# Altium schematic symbol library CH sch.SchLib: 197 symbols (part 1 of 4)
Pins are listed as number, name and electrical type; pins without a type are passive.

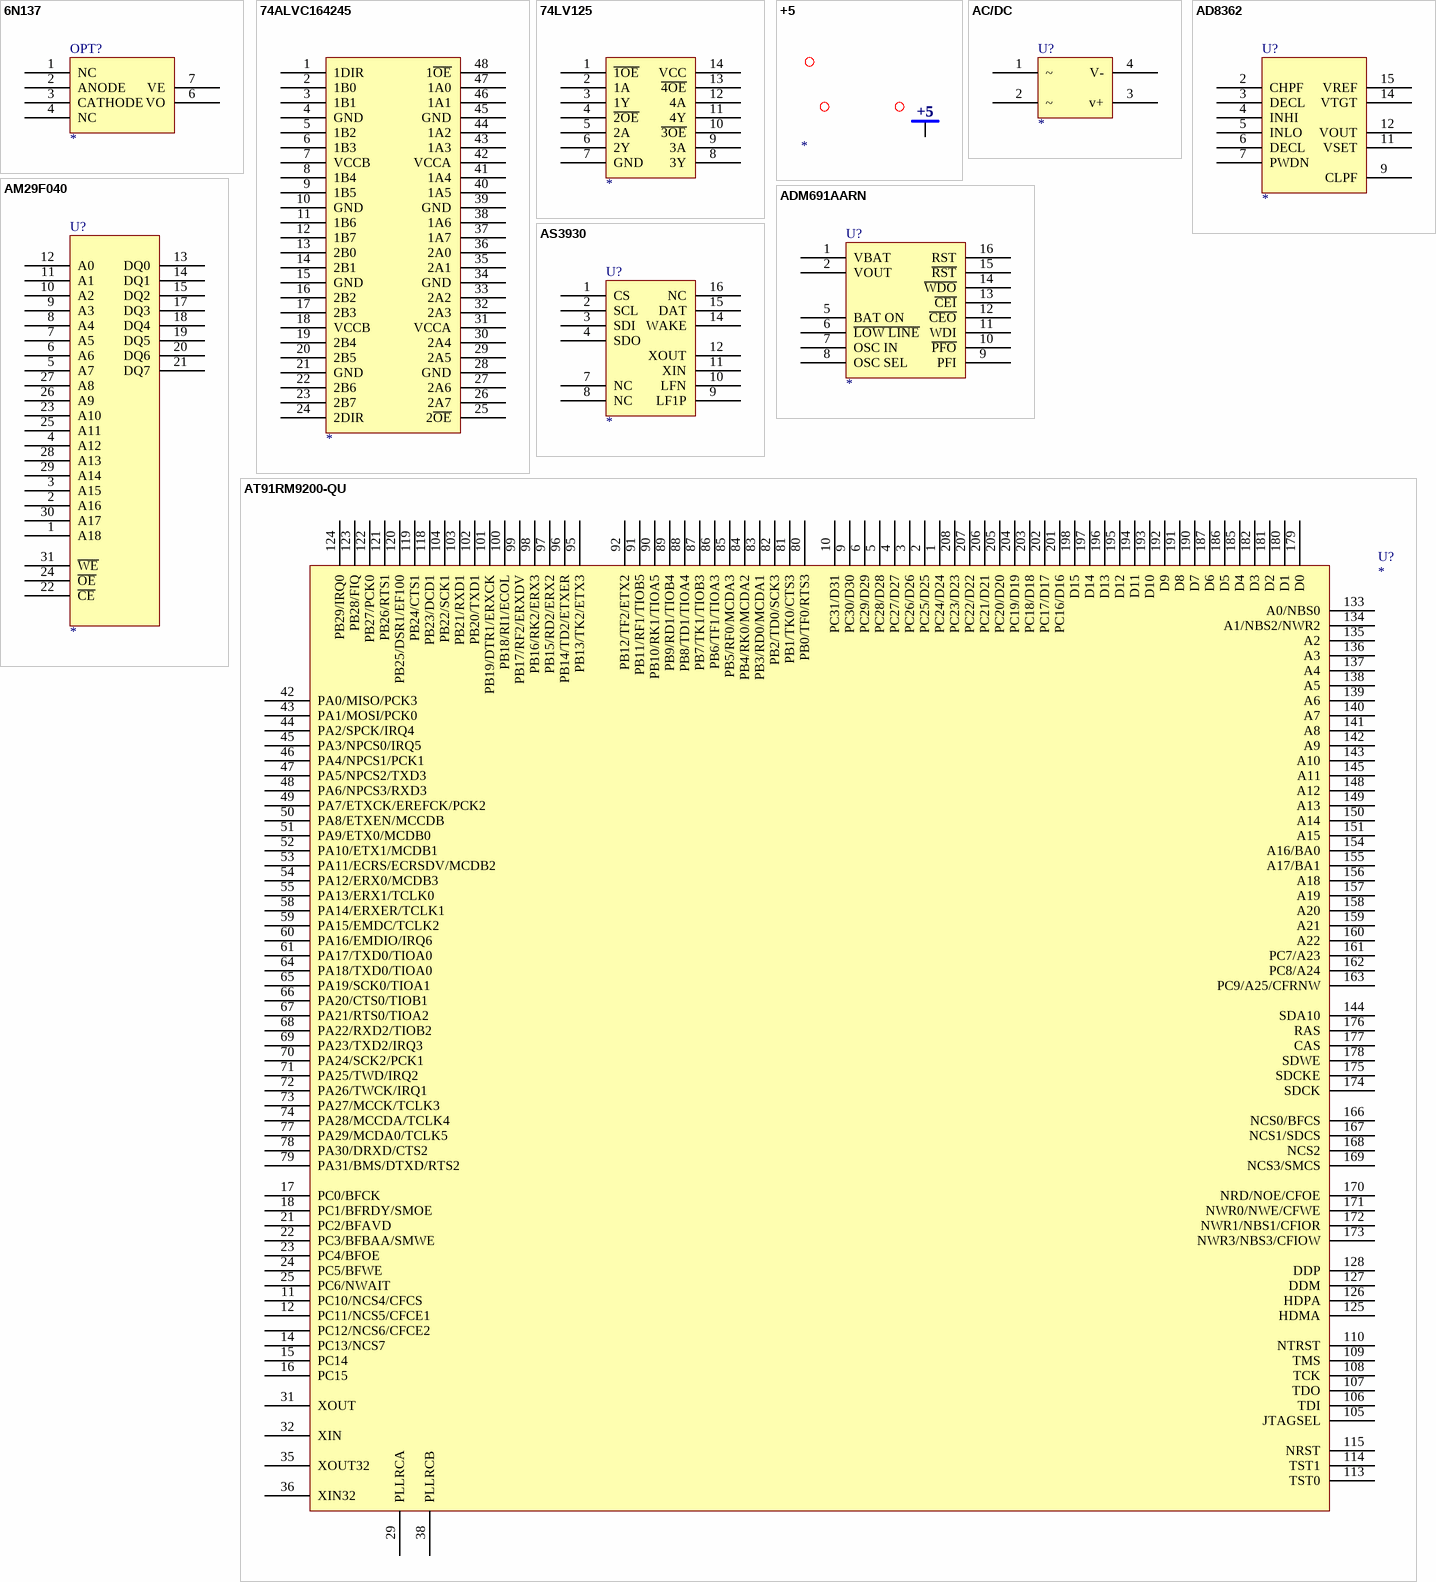
[diagram p0: symbols 6N137 to AT91RM9200-QU]

## 6N137
designator OPT?
footprint DIP8
footprint DIP8-SMT
pins: 1 NC, 2 ANODE, 3 CATHODE, 4 NC, 5 GND (power) hidden to GND, 6 VO, 7 VE, 8 VCC (power) hidden to VCC
2 alternate drawings of the same symbol

## 74ALVC164245
designator ?
pins: 1 1DIR, 2 1B0, 3 1B1, 4 GND, 5 1B2, 6 1B3, 7 VCCB, 8 1B4, 9 1B5, 10 GND, 11 1B6, 12 1B7, 13 2B0, 14 2B1, 15 GND, 16 2B2, 17 2B3, 18 VCCB, 19 2B4, 20 2B5, 21 GND, 22 2B6, 23 2B7, 24 2DIR, 25 2~{OE}, 26 2A7, 27 2A6, 28 GND, 29 2A5, 30 2A4, 31 VCCA, 32 2A3, 33 2A2, 34 GND, 35 2A1, 36 2A0, 37 1A7, 38 1A6, 39 GND, 40 1A5, 41 1A4, 42 VCCA, 43 1A3, 44 1A2, 45 GND, 46 1A1, 47 1A0, 48 1~{OE}
2 alternate drawings of the same symbol

## 74LV125
designator ?
pins: 1 ~{1OE}, 2 1A, 3 1Y, 4 ~{2OE}, 5 2A, 6 2Y, 7 GND, 8 3Y, 9 3A, 10 ~{3OE}, 11 4Y, 12 4A, 13 ~{4OE}, 14 VCC
2 alternate drawings of the same symbol

## +5
designator ?
pins: 1 (power)
2 alternate drawings of the same symbol

## AC/DC
designator U?
footprint AC_DC1
footprint AC_DC2
pins: 1 ~, 2 ~, 3 v+, 4 V-
2 alternate drawings of the same symbol

## AD8362
designator U?
50 Hz to 2.7 GHz / 60 dB TruPwr Detector
footprint SSOP-16A
pins: 1 GND (power) hidden to GND, 2 CHPF, 3 DECL, 4 INHI, 5 INLO, 6 DECL, 7 PWDN, 8 GND (power) hidden to GND, 9 CLPF, 10 AGND (power) hidden to AGND, 11 VSET, 12 VOUT, 13 VCC (power) hidden to VCC, 14 VTGT, 15 VREF, 16 AGND (power) hidden to AGND
2 alternate drawings of the same symbol

## ADM691AARN
designator U?
footprint SOP-16
pins: 1 VBAT, 2 VOUT, 3 VCC (power) hidden to VCC, 4 GND (power) hidden to GND, 5 BAT ON, 6 ~{LOW LINE}, 7 OSC IN, 8 OSC SEL, 9 PFI, 10 ~{PFO}, 11 WDI, 12 ~{CEO}, 13 ~{CEI}, 14 ~{WDO}, 15 ~{RST}, 16 RST
2 alternate drawings of the same symbol

## AM29F040
designator U?
footprint PLCC32
pins: 1 A18, 2 A16, 3 A15, 4 A12, 5 A7, 6 A6, 7 A5, 8 A4, 9 A3, 10 A2, 11 A1, 12 A0, 13 DQ0, 14 DQ1, 15 DQ2, 16 VSS (power) hidden to VSS, 17 DQ3, 18 DQ4, 19 DQ5, 20 DQ6, 21 DQ7, 22 ~{CE}, 23 A10, 24 ~{OE}, 25 A11, 26 A9, 27 A8, 28 A13, 29 A14, 30 A17, 31 ~{WE}, 32 VCC (power) hidden to VCC
2 alternate drawings of the same symbol

## AS3930
designator U?
footprint SSOP-16A
pins: 1 CS, 2 SCL, 3 SDI, 4 SDO, 5 VCC (power) hidden to VCC, 6 GND (power) hidden to GND, 7 NC, 8 NC, 9 LF1P, 10 LFN, 11 XIN, 12 XOUT, 13 GND (power) hidden to GND, 14 WAKE, 15 DAT, 16 NC
2 alternate drawings of the same symbol

## AT91RM9200-QU
designator U?
footprint PQFP28X28-208
pins: 1 PC24/D24, 2 PC25/D25, 3 PC26/D26, 4 PC27/D27, 5 PC28/D28, 6 PC29/D29, 7 VDDIOM (power) hidden to VDDIOM, 8 GND (power) hidden to GND, 9 PC30/D30, 10 PC31/D31, 11 PC10/NCS4/CFCS, 12 PC11/NCS5/CFCE1, 13 PC12/NCS6/CFCE2, 14 PC13/NCS7, 15 PC14, 16 PC15, 17 PC0/BFCK, 18 PC1/BFRDY/SMOE, 19 VDDCORE (power) hidden to VDDCORE, 20 GND (power) hidden to GND, 21 PC2/BFAVD, 22 PC3/BFBAA/SMWE, 23 PC4/BFOE, 24 PC5/BFWE, 25 PC6/NWAIT, 26 VDDIOM (power) hidden to VDDIOM, 27 GND (power) hidden to GND, 28 VDDPLL (power) hidden to VDDPLL, 29 PLLRCA, 30 GNDPLL (power) hidden to GNDPLL, 31 XOUT, 32 XIN, 33 VDDOSC (power) hidden to VDDOSC, 34 GNDOSC (power) hidden to GNDOSC, 35 XOUT32, 36 XIN32, 37 VDDPLL (power) hidden to VDDPLL, 38 PLLRCB, 39 GNDPLL (power) hidden to GNDPLL, 40 VDDIOP (power) hidden to VDDIOP, 41 GND (power) hidden to GND, 42 PA0/MISO/PCK3, 43 PA1/MOSI/PCK0, 44 PA2/SPCK/IRQ4, 45 PA3/NPCS0/IRQ5, 46 PA4/NPCS1/PCK1, 47 PA5/NPCS2/TXD3, 48 PA6/NPCS3/RXD3, 49 PA7/ETXCK/EREFCK/PCK2, 50 PA8/ETXEN/MCCDB, 51 PA9/ETX0/MCDB0, 52 PA10/ETX1/MCDB1, 53 PA11/ECRS/ECRSDV/MCDB2, 54 PA12/ERX0/MCDB3, 55 PA13/ERX1/TCLK0, 56 VDDIOP (power) hidden to VDDIOP, 57 GND (power) hidden to GND, 58 PA14/ERXER/TCLK1, 59 PA15/EMDC/TCLK2, 60 PA16/EMDIO/IRQ6, 61 PA17/TXD0/TIOA0, 62 VDDCORE (power) hidden to VDDCORE, 63 GND (power) hidden to GND, 64 PA18/TXD0/TIOA0, 65 PA19/SCK0/TIOA1, 66 PA20/CTS0/TIOB1, 67 PA21/RTS0/TIOA2, 68 PA22/RXD2/TIOB2, 69 PA23/TXD2/IRQ3, 70 PA24/SCK2/PCK1, 71 PA25/TWD/IRQ2, 72 PA26/TWCK/IRQ1, 73 PA27/MCCK/TCLK3, 74 PA28/MCCDA/TCLK4, 75 VDDIOP (power) hidden to VDDIOP, 76 GND (power) hidden to GND, 77 PA29/MCDA0/TCLK5, 78 PA30/DRXD/CTS2, 79 PA31/BMS/DTXD/RTS2, 80 PB0/TF0/RTS3, 81 PB1/TK0/CTS3, 82 PB2/TD0/SCK3, 83 PB3/RD0/MCDA1, 84 PB4/RK0/MCDA2, 85 PB5/RF0/MCDA3, 86 PB6/TF1/TIOA3, 87 PB7/TK1/TIOB3, 88 PB8/TD1/TIOA4, 89 PB9/RD1/TIOB4, 90 PB10/RK1/TIOA5, 91 PB11/RF1/TIOB5, 92 PB12/TF2/ETX2, 93 VDDIOP (power) hidden to VDDIOP, 94 GND (power) hidden to GND, 95 PB13/TK2/ETX3, 96 PB14/TD2/ETXER, 97 PB15/RD2/ERX2, 98 PB16/RK2/ERX3, 99 PB17/RF2/ERXDV, 100 PB18/RI1/ECOL, 101 PB19/DTR1/ERXCK, 102 PB20/TXD1, 103 PB21/RXD1, 104 PB22/SCK1, 105 JTAGSEL, 106 TDI, 107 TDO, 108 TCK, 109 TMS, 110 NTRST, 111 VDDIOP (power) hidden to VDDIOP, 112 GND (power) hidden to GND, 113 TST0, 114 TST1, 115 NRST, 116 VDDCORE (power) hidden to VDDCORE, 117 GND (power) hidden to GND, 118 PB23/DCD1, 119 PB24/CTS1, 120 PB25/DSR1/EF100, 121 PB26/RTS1, 122 PB27/PCK0, 123 PB28/FIQ, 124 PB29/IRQ0, 125 HDMA, 126 HDPA, 127 DDM, 128 DDP, 129 VDDIOP (power) hidden to VDDIOP, 130 GND (power) hidden to GND, 131 VDDIOM (power) hidden to VDDIOM, 132 GND (power) hidden to GND, 133 A0/NBS0, 134 A1/NBS2/NWR2, 135 A2, 136 A3, 137 A4, 138 A5, 139 A6, 140 A7, 141 A8, 142 A9, 143 A10, 144 SDA10, 145 A11, 146 VDDIOM (power) hidden to VDDIOM, 147 GND (power) hidden to GND, 148 A12, 149 A13, 150 A14, 151 A15, 152 VDDCORE (power) hidden to VDDCORE, 153 GND (power) hidden to GND, 154 A16/BA0, 155 A17/BA1, 156 A18, 157 A19, 158 A20, 159 A21, 160 A22, 161 PC7/A23, 162 PC8/A24, 163 PC9/A25/CFRNW, 164 VDDIOM (power) hidden to VDDIOM, 165 GND (power) hidden to GND, 166 NCS0/BFCS, 167 NCS1/SDCS, 168 NCS2, 169 NCS3/SMCS, 170 NRD/NOE/CFOE, 171 NWR0/NWE/CFWE, 172 NWR1/NBS1/CFIOR, 173 NWR3/NBS3/CFIOW, 174 SDCK, 175 SDCKE, 176 RAS, 177 CAS, 178 SDWE, 179 D0, 180 D1, 181 D2, 182 D3, 183 VDDIOM (power) hidden to VDDIOM, 184 GND (power) hidden to GND, 185 D4, 186 D5, 187 D6, 188 VDDCORE (power) hidden to VDDCORE, 189 GND (power) hidden to GND, 190 D7, 191 D8, 192 D9, 193 D10, 194 D11, 195 D12, 196 D13, 197 D14, 198 D15, 199 VDDIOM (power) hidden to VDDIOM, 200 GND (power) hidden to GND, 201 PC16/D16, 202 PC17/D17, 203 PC18/D18, 204 PC19/D19, 205 PC20/D20, 206 PC21/D21, 207 PC22/D22, 208 PC23/D23
2 alternate drawings of the same symbol

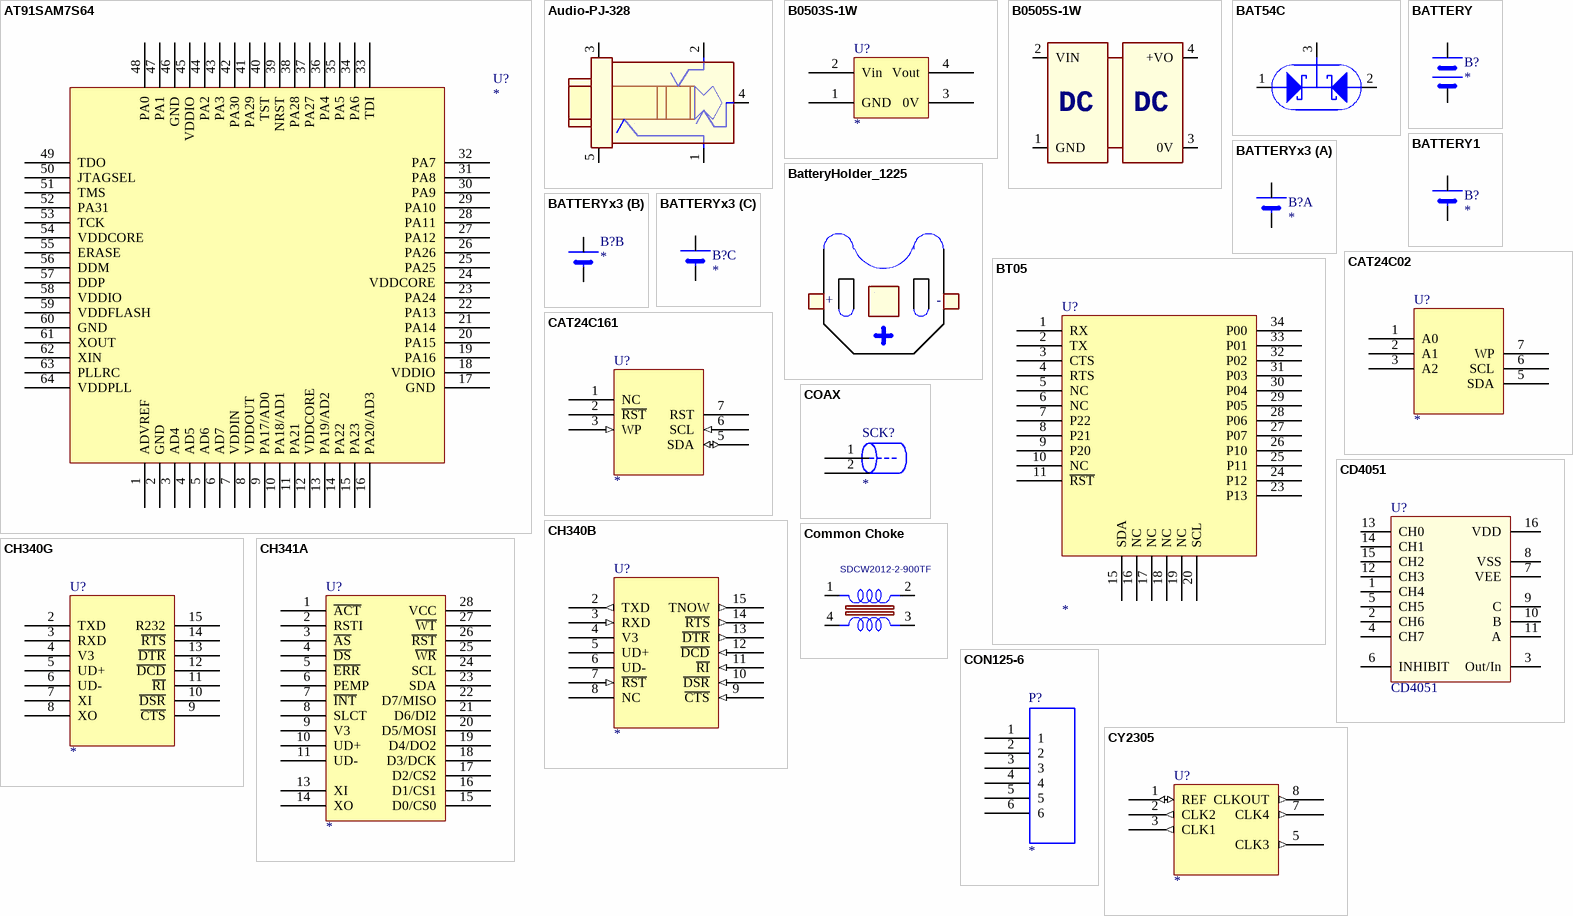
[diagram p1: symbols AT91SAM7S64 to CY2305]

## AT91SAM7S64
designator U?
footprint LQFP-64
pins: 1 ADVREF, 2 GND, 3 AD4, 4 AD5, 5 AD6, 6 AD7, 7 VDDIN, 8 VDDOUT, 9 PA17/AD0, 10 PA18/AD1, 11 PA21, 12 VDDCORE, 13 PA19/AD2, 14 PA22, 15 PA23, 16 PA20/AD3, 17 GND, 18 VDDIO, 19 PA16, 20 PA15, 21 PA14, 22 PA13, 23 PA24, 24 VDDCORE, 25 PA25, 26 PA26, 27 PA12, 28 PA11, 29 PA10, 30 PA9, 31 PA8, 32 PA7, 33 TDI, 34 PA6, 35 PA5, 36 PA4, 37 PA27, 38 PA28, 39 NRST, 40 TST, 41 PA29, 42 PA30, 43 PA3, 44 PA2, 45 VDDIO, 46 GND, 47 PA1, 48 PA0, 49 TDO, 50 JTAGSEL, 51 TMS, 52 PA31, 53 TCK, 54 VDDCORE, 55 ERASE, 56 DDM, 57 DDP, 58 VDDIO, 59 VDDFLASH, 60 GND, 61 XOUT, 62 XIN, 63 PLLRC, 64 VDDPLL
2 alternate drawings of the same symbol

## Audio-PJ-328
designator J?
pins: 1 G, 2 R, 3 S/W, 4 L, 5 MIC

## B0503S-1W
designator U?
footprint B0505S
pins: 1 GND, 2 Vin, 3 0V, 4 Vout
2 alternate drawings of the same symbol

## B0505S-1W
designator U?
footprint B0505S
pins: 1 GND (power), 2 VIN (power), 3 0V (power), 4 +VO (power)
text: DC

## BAT54C
designator D?
footprint SOT23T02
pins: 1 ANODE, 2 NC, 3 CATHODE

## BATTERY
designator B?
footprint BAT600
pins: 1, 2
2 alternate drawings of the same symbol

## BATTERY1
designator B?
footprint BAT600
pins: 1, 2
2 alternate drawings of the same symbol

## BatteryHolder_1225
designator J?  (value not drawn)
footprint BAT600
pins: 1 P1, 2 P2
text: +; -

## BATTERYx3
designator B?
footprint BAT600
part A pins: 1 (power), 2 (power)
part B pins: 3 (power), 4 (power)
part C pins: 5 (power), 6 (power)
2 alternate drawings of the same symbol

## BT05
designator U?
footprint BT05
pins: 1 RX, 2 TX, 3 CTS, 4 RTS, 5 NC, 6 NC, 7 P22, 8 P21, 9 P20, 10 NC, 11 ~{RST}, 12 VCC (power) hidden to VCC, 13 GND (power) hidden to GND, 14 GND (power) hidden to GND, 15 SDA, 16 NC, 17 NC, 18 NC, 19 NC, 20 SCL, 21 GND (power) hidden to GND, 22 GND (power) hidden to GND, 23 P13, 24 P12, 25 P11, 26 P10, 27 P07, 28 P06, 29 P05, 30 P04, 31 P03, 32 P02, 33 P01, 34 P00
2 alternate drawings of the same symbol

## CAT24C02
designator U?
footprint SOP-8
footprint TSSOP-8A
pins: 1 A0, 2 A1, 3 A2, 4 GND (power) hidden to GND, 5 SDA, 6 SCL, 7 WP, 8 VCC (power) hidden to VCC
2 alternate drawings of the same symbol

## CAT24C161
designator U?
footprint SOP-8
pins: 1 NC, 2 ~{RST} (oc), 3 WP (in), 4 VSS (power) hidden to VSS, 5 SDA (io), 6 SCL (in), 7 RST (oc), 8 VCC (power) hidden to VCC
2 alternate drawings of the same symbol

## CD4051
designator U?
footprint TSSOP-16A
pins: 1 CH4, 2 CH6, 3 Out/In, 4 CH7, 5 CH5, 6 INHIBIT, 7 VEE, 8 VSS, 9 C, 10 B, 11 A, 12 CH3, 13 CH0, 14 CH1, 15 CH2, 16 VDD

## CH340B
designator U?
footprint SOP-16
pins: 1 GND (power) hidden to GND, 2 TXD (out), 3 RXD (in), 4 V3, 5 UD+, 6 UD-, 7 ~{RST} (in), 8 NC, 9 ~{CTS} (in), 10 ~{DSR} (in), 11 ~{RI} (in), 12 ~{DCD} (in), 13 ~{DTR} (out), 14 ~{RTS} (out), 15 TNOW (out), 16 VCC (power) hidden to VCC
2 alternate drawings of the same symbol

## CH340G
designator U?
footprint SOP-16
pins: 1 GND (power) hidden to GND, 2 TXD, 3 RXD, 4 V3, 5 UD+, 6 UD-, 7 XI, 8 XO, 9 ~{CTS}, 10 ~{DSR}, 11 ~{RI}, 12 ~{DCD}, 13 ~{DTR}, 14 ~{RTS}, 15 R232, 16 VCC (power) hidden to VCC
2 alternate drawings of the same symbol

## CH341A
designator U?
footprint SOP-28A
pins: 1 ~{ACT} (power), 2 RSTI, 3 ~{AS}, 4 ~{DS}, 5 ~{ERR}, 6 PEMP, 7 ~{INT}, 8 SLCT, 9 V3, 10 UD+, 11 UD-, 12 GND (power) hidden to GND, 13 XI, 14 XO, 15 D0/CS0, 16 D1/CS1 (power), 17 D2/CS2, 18 D3/DCK, 19 D4/DO2, 20 D5/MOSI, 21 D6/DI2, 22 D7/MISO, 23 SDA, 24 SCL, 25 ~{WR}, 26 ~{RST}, 27 ~{WT}, 28 VCC
2 alternate drawings of the same symbol

## COAX
designator SCK?
footprint SMB-5
pins: 1, 2
2 alternate drawings of the same symbol

## Common Choke
designator L?, comment SDCW2012-2-900TF
Inductor, Common Mode Choke, DLP11SN900SL2, 0504; Cost_100: 0.32; Cost_1K: 0.26; Dist1_PN: 81-DLP11SN900SL2L; Mfg1: Murata; Dist1: Mouser; Device: 0504CHOKE; DNP: No; Mfg2_PN: EXC-24CE201U; Cost: 0.56; Mfg1_PN: DLP11SN900SL2; Mfg2: Panasonic
footprint SDCW2012 (Footprint not found)
pins: 1, 2, 3, 4

## CON125-6
designator P?
1.25 插座
footprint CON125-6L
pins: 1, 2, 3, 4, 5, 6, A (power) hidden to A, B (power) hidden to B
2 alternate drawings of the same symbol

## CY2305
designator U?
footprint SOP8
pins: 1 REF (io), 2 CLK2 (out), 3 CLK1 (out), 4 GND (power) hidden to GND, 5 CLK3 (out), 6 VDD (power) hidden to VDD, 7 CLK4 (out), 8 CLKOUT (out)
2 alternate drawings of the same symbol

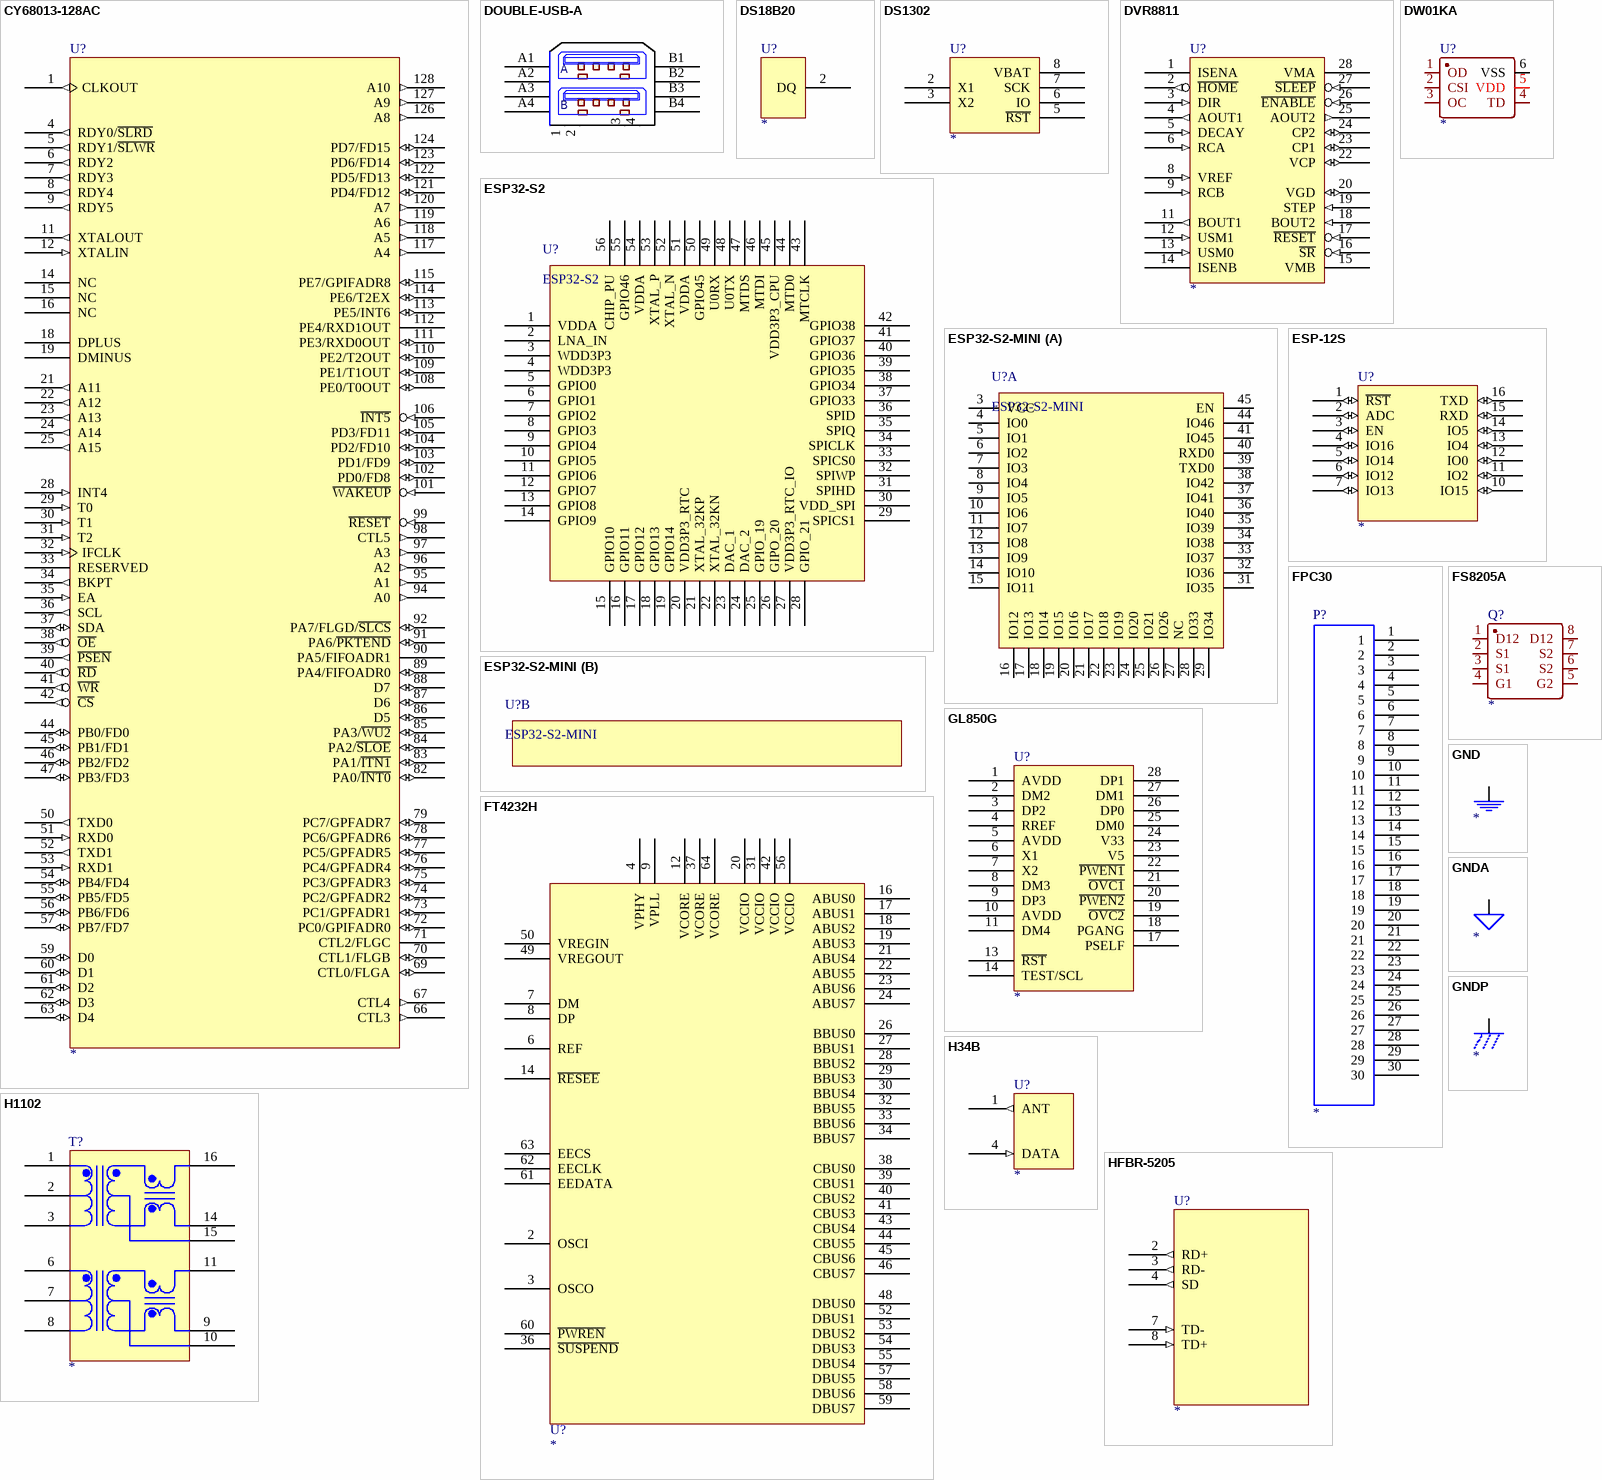
[diagram p2: symbols CY68013-128AC to HFBR-5205]

## CY68013-128AC
designator U?
footprint R-QFP14X20-G128/N
pins: 1 CLKOUT (out), 2 VCC (power) hidden to VCC, 3 GND (power) hidden to GND, 4 RDY0/~{SLRD} (out), 5 RDY1/~{SLWR} (out), 6 RDY2 (out), 7 RDY3 (out), 8 RDY4 (out), 9 RDY5 (out), 10 AVCC (power) hidden to AVCC, 11 XTALOUT (out), 12 XTALIN (in), 13 AGND (power) hidden to AGND, 14 NC, 15 NC, 16 NC, 17 VCC (power) hidden to VCC, 18 DPLUS, 19 DMINUS, 20 GND (power) hidden to GND, 21 A11 (out), 22 A12 (out), 23 A13 (out), 24 A14 (out), 25 A15 (out), 26 VCC (power) hidden to VCC, 27 GND (power) hidden to GND, 28 INT4 (in), 29 T0 (in), 30 T1 (in), 31 T2 (in), 32 IFCLK (in), 33 RESERVED, 34 BKPT (out), 35 EA (in), 36 SCL (out), 37 SDA (io), 38 ~{OE} (out), 39 ~{PSEN} (out), 40 ~{RD} (out), 41 ~{WR} (out), 42 ~{CS} (out), 43 VCC (power) hidden to VCC, 44 PB0/FD0 (io), 45 PB1/FD1 (io), 46 PB2/FD2 (io), 47 PB3/FD3 (io), 48 VCC (power) hidden to VCC, 49 GND (power) hidden to GND, 50 TXD0 (out), 51 RXD0 (in), 52 TXD1 (out), 53 RXD1 (in), 54 PB4/FD4 (io), 55 PB5/FD5 (io), 56 PB6/FD6 (io), 57 PB7/FD7 (io), 58 GND (power) hidden to GND, 59 D0 (io), 60 D1 (io), 61 D2 (io), 62 D3 (io), 63 D4 (io), 64 VCC (power) hidden to VCC, 65 GND (power) hidden to GND, 66 CTL3 (out), 67 CTL4 (out), 68 VCC (power) hidden to VCC, 69 CTL0/FLGA (io), 70 CTL1/FLGB (io), 71 CTL2/FLGC, 72 PC0/GPIFADR0 (io), 73 PC1/GPFADR1 (io), 74 PC2/GPFADR2 (io), 75 PC3/GPFADR3 (io), 76 PC4/GPFADR4 (io), 77 PC5/GPFADR5 (io), 78 PC6/GPFADR6 (io), 79 PC7/GPFADR7 (io), 80 GND (power) hidden to GND, 81 VCC (power) hidden to VCC, 82 PA0/~{INT0} (io), 83 PA1/~{ITN1} (io), 84 PA2/~{SLOE} (io), 85 PA3/~{WU2} (io), 86 D5 (io), 87 D6 (io), 88 D7 (io), 89 PA4/FIFOADR0 (io), 90 PA5/FIFOADR1, 91 PA6/~{PKTEND} (io), 92 PA7/FLGD/~{SLCS} (io), 93 GND (power) hidden to GND, 94 A0 (out), 95 A1 (out), 96 A2 (out), 97 A3 (out), 98 CTL5 (out), 99 ~{RESET} (in), 100 VCC (power) hidden to VCC, 101 ~{WAKEUP} (in), 102 PD0/FD8 (io), 103 PD1/FD9 (io), 104 PD2/FD10 (io), 105 PD3/FD11 (io), 106 ~{INT5} (in), 107 VCC (power) hidden to VCC, 108 PE0/T0OUT (io), 109 PE1/T1OUT (io), 110 PE2/T2OUT (io), 111 PE3/RXD0OUT (io), 112 PE4/RXD1OUT, 113 PE5/INT6 (io), 114 PE6/T2EX (io), 115 PE7/GPIFADR8 (io), 116 GND (power) hidden to GND, 117 A4 (out), 118 A5 (out), 119 A6 (out), 120 A7 (out), 121 PD4/FD12 (io), 122 PD5/FD13 (io), 123 PD6/FD14 (io), 124 PD7/FD15 (io), 125 GND (power) hidden to GND, 126 A8 (out), 127 A9 (out), 128 A10 (out)
2 alternate drawings of the same symbol

## DOUBLE-USB-A
designator J?  (value not drawn)
DEV: CON_USBDUAL72309; DESIG: DUAL USB TYPE A RIGHT ANGLE; REF: CCUSBA-32002-30X; FAB: CYPRESS INDUSTRIES; VAL: CCUSBA-32002-30X
footprint CON_USBDUAL72309
pins: 1 BODY1, 2 BODY2, 3 BODY3, 4 BODY4, A1 VCC (power), A2 USBHMA, A3 USBHPA, A4 GND (power), B1 VCC (power), B2 USBHMB, B3 USBHPB, B4 GND (power)
text: A; B

## DS18B20
designator U?
footprint TO-29C
pins: 1 GND (power) hidden to GND, 2 DQ, 3 VCC (power) hidden to VCC
2 alternate drawings of the same symbol

## DS1302
designator U?
footprint SOP-8
pins: 1 VCC (power) hidden to VCC, 2 X1, 3 X2, 4 GND (power) hidden to GND, 5 ~{RST}, 6 IO, 7 SCK, 8 VBAT
2 alternate drawings of the same symbol

## DVR8811
designator U?
footprint SSOP-29
pins: 1 ISENA, 2 ~{HOME} (out), 3 DIR (in), 4 AOUT1 (out), 5 DECAY (in), 6 RCA (in), 7 GND (power) hidden to GND, 8 VREF (in), 9 RCB (in), 10 VCC (power) hidden to VCC, 11 BOUT1 (out), 12 USM1 (in), 13 USM0 (in), 14 ISENB, 15 VMB (power), 16 ~{SR} (in), 17 ~{RESET} (in), 18 BOUT2 (in), 19 STEP (in), 20 VGD (io), 21 GND (power) hidden to GND, 22 VCP (io), 23 CP1 (io), 24 CP2 (io), 25 AOUT2 (out), 26 ~{ENABLE} (in), 27 ~{SLEEP} (in), 28 VMA (power), 29 GND hidden to GND
2 alternate drawings of the same symbol

## DW01KA
designator U?
BOM_Supplier: *; BOM_Manufacturer: *; BOM_Manufacturer Part: *; BOM_Supplier Part: *; BOM_LCSC Assembly: *; SMT Type: *; spicePre: *; spiceSymbolName: *
footprint SOT-23-6
pins: 1 OD, 2 CSI, 3 OC, 4 TD, 5 VDD, 6 VSS
2 alternate drawings of the same symbol

## ESP32-S2
designator U?
footprint QFN56-7x7
pins: 1 VDDA, 2 LNA_IN, 3 WDD3P3, 4 WDD3P3, 5 GPIO0, 6 GPIO1, 7 GPIO2, 8 GPIO3, 9 GPIO4, 10 GPIO5, 11 GPIO6, 12 GPIO7, 13 GPIO8, 14 GPIO9, 15 GPIO10, 16 GPIO11, 17 GPIO12, 18 GPIO13, 19 GPIO14, 20 VDD3P3_RTC, 21 XTAL_32KP, 22 XTAL_32KN, 23 DAC_1, 24 DAC_2, 25 GPIO_19, 26 GIPO_20, 27 VDD3P3_RTC_IO, 28 GPIO_21, 29 SPICS1, 30 VDD_SPI, 31 SPIHD, 32 SPIWP, 33 SPICS0, 34 SPICLK, 35 SPIQ, 36 SPID, 37 GPIO33, 38 GPIO34, 39 GPIO35, 40 GPIO36, 41 GPIO37, 42 GPIO38, 43 MTCLK, 44 MTD0, 45 VDD3P3_CPU, 46 MTDI, 47 MTDS, 48 U0TX, 49 U0RX, 50 GPIO45, 51 VDDA, 52 XTAL_N, 53 XTAL_P, 54 VDDA, 55 GPIO46, 56 CHIP_PU, 57 GND (power) hidden to GND

## ESP32-S2-MINI
designator U?
footprint ESP32-S2-MINI
footprint ESP32-S2-MINI-U
part A pins: 3 VCC (power), 4 IO0, 5 IO1, 6 IO2, 7 IO3, 8 IO4, 9 IO5, 10 IO6, 11 IO7, 12 IO8, 13 IO9, 14 IO10, 15 IO11, 16 IO12, 17 IO13, 18 IO14, 19 IO15, 20 IO16, 21 IO17, 22 IO18, 23 IO19, 24 IO20, 25 IO21, 26 IO26, 27 NC, 28 IO33, 29 IO34, 31 IO35, 32 IO36, 33 IO37, 34 IO38, 35 IO39, 36 IO40, 37 IO41, 38 IO42, 39 TXD0, 40 RXD0, 41 IO45, 44 IO46, 45 EN
part B pins: 1 GND (power) hidden to GND, 2 GND (power) hidden to GND, 30 GND (power) hidden to GND, 42 GND (power) hidden to GND, 43 GND (power) hidden to GND, 46 GND (power) hidden to GND, 47 GND (power) hidden to GND, 48 GND (power) hidden to GND, 49 GND (power) hidden to GND, 50 GND (power) hidden to GND, 51 GND (power) hidden to GND, 52 GND (power) hidden to GND, 53 GND (power) hidden to GND, 54 GND (power) hidden to GND, 55 GND (power) hidden to GND, 56 GND (power) hidden to GND, 57 GND (power) hidden to GND, 58 GND (power) hidden to GND, 59 GND (power) hidden to GND, 60 GND (power) hidden to GND, 61 GND (power) hidden to GND, 62 GND (power) hidden to GND, 63 GND (power) hidden to GND, 64 GND (power) hidden to GND, 65 GND (power) hidden to GND

## ESP-12S
designator U?
footprint ESP-12S
pins: 1 ~{RST} (io), 2 ADC (io), 3 EN (io), 4 IO16 (io), 5 IO14 (io), 6 IO12 (io), 7 IO13 (io), 8 VCC (power) hidden to VCC, 9 GND (power) hidden to GND, 10 IO15 (io), 11 IO2 (io), 12 IO0 (io), 13 IO4 (io), 14 IO5 (io), 15 RXD (io), 16 TXD (io)
2 alternate drawings of the same symbol

## FPC30
designator P?
footprint FPC05-30X
pins: 0 GND hidden to GND, 1, 2, 3, 4, 5, 6, 7, 8, 9, 10, 11, 12, 13, 14, 15, 16, 17, 18, 19, 20, 21, 22, 23, 24, 25, 26, 27, 28, 29, 30
2 alternate drawings of the same symbol

## FS8205A
designator Q?
BOM_Supplier: *; BOM_Manufacturer: *; BOM_Manufacturer Part: *; BOM_LCSC Assembly: *; image: *; BOM_Supplier Part: *; SMT Type: *; spicePre: *; spiceSymbolName: *
footprint TSSOP-8A
pins: 1 D12, 2 S1, 3 S1, 4 G1, 5 G2, 6 S2, 7 S2, 8 D12
2 alternate drawings of the same symbol

## FT4232H
designator U?
pins: 1 GND (power) hidden to GND, 2 OSCI, 3 OSCO, 4 VPHY (power), 5 GND (power) hidden to GND, 6 REF, 7 DM, 8 DP, 9 VPLL (power), 10 AGND (power) hidden to AGND, 11 GND (power) hidden to GND, 12 VCORE (power), 14 ~{RESEE}, 15 GND (power) hidden to GND, 16 ABUS0, 17 ABUS1, 18 ABUS2, 19 ABUS3, 20 VCCIO (power), 21 ABUS4, 22 ABUS5, 23 ABUS6, 24 ABUS7, 25 GND (power) hidden to GND, 26 BBUS0, 27 BBUS1, 28 BBUS2, 29 BBUS3, 30 BBUS4, 31 VCCIO (power), 32 BBUS5, 33 BBUS6, 34 BBUS7, 35 GND (power) hidden to GND, 36 ~{SUSPEND}, 37 VCORE (power), 38 CBUS0, 39 CBUS1, 40 CBUS2, 41 CBUS3, 42 VCCIO (power), 43 CBUS4, 44 CBUS5, 45 CBUS6, 46 CBUS7, 47 GND (power) hidden to GND, 48 DBUS0, 49 VREGOUT (power), 50 VREGIN (power), 51 GND (power) hidden to GND, 52 DBUS1, 53 DBUS2, 54 DBUS3, 55 DBUS4, 56 VCCIO (power), 57 DBUS5, 58 DBUS6, 59 DBUS7, 60 ~{PWREN}, 61 EEDATA, 62 EECLK, 63 EECS, 64 VCORE (power)
2 alternate drawings of the same symbol

## GL850G
designator U?
4 ports USB HUB
footprint SSOP-28
pins: 1 AVDD (power), 2 DM2, 3 DP2, 4 RREF, 5 AVDD, 6 X1, 7 X2, 8 DM3, 9 DP3, 10 AVDD, 11 DM4, 12 DP4 (power) hidden to DP4, 13 ~{RST}, 14 TEST/SCL, 15 GND (power) hidden to GND, 16 DVDD (power) hidden to DVDD, 17 PSELF, 18 PGANG, 19 ~{OVC2}, 20 ~{PWEN2}, 21 ~{OVC1}, 22 ~{PWEN1}, 23 V5 (power), 24 V33 (power), 25 DM0, 26 DP0, 27 DM1, 28 DP1
2 alternate drawings of the same symbol

## GND
designator ?
pins: 1 (power)
2 alternate drawings of the same symbol

## GNDA
designator ?
pins: 1 (power)
2 alternate drawings of the same symbol

## GNDP
designator ?
pins: 1 (power)
2 alternate drawings of the same symbol

## H34B
designator U?
footprint H34B
pins: 1 ANT (out), 2 GND (power) hidden to GND, 3 VCC (power) hidden to VCC, 4 DATA (in)
2 alternate drawings of the same symbol

## H1102
designator T?
footprint SOP16-T
pins: 1, 2, 3, 6, 7, 8, 9, 10, 11, 14, 15, 16
2 alternate drawings of the same symbol

## HFBR-5205
designator U?
footprint HFBR-9
pins: 1 VEERX (power) hidden to VEERX, 2 RD+ (out), 3 RD- (out), 4 SD (out), 5 VCCRX (power) hidden to VCCRX, 6 VCCTX (power) hidden to VCCTX, 7 TD- (in), 8 TD+ (in), 9 VEETX (power) hidden to VEETX
2 alternate drawings of the same symbol

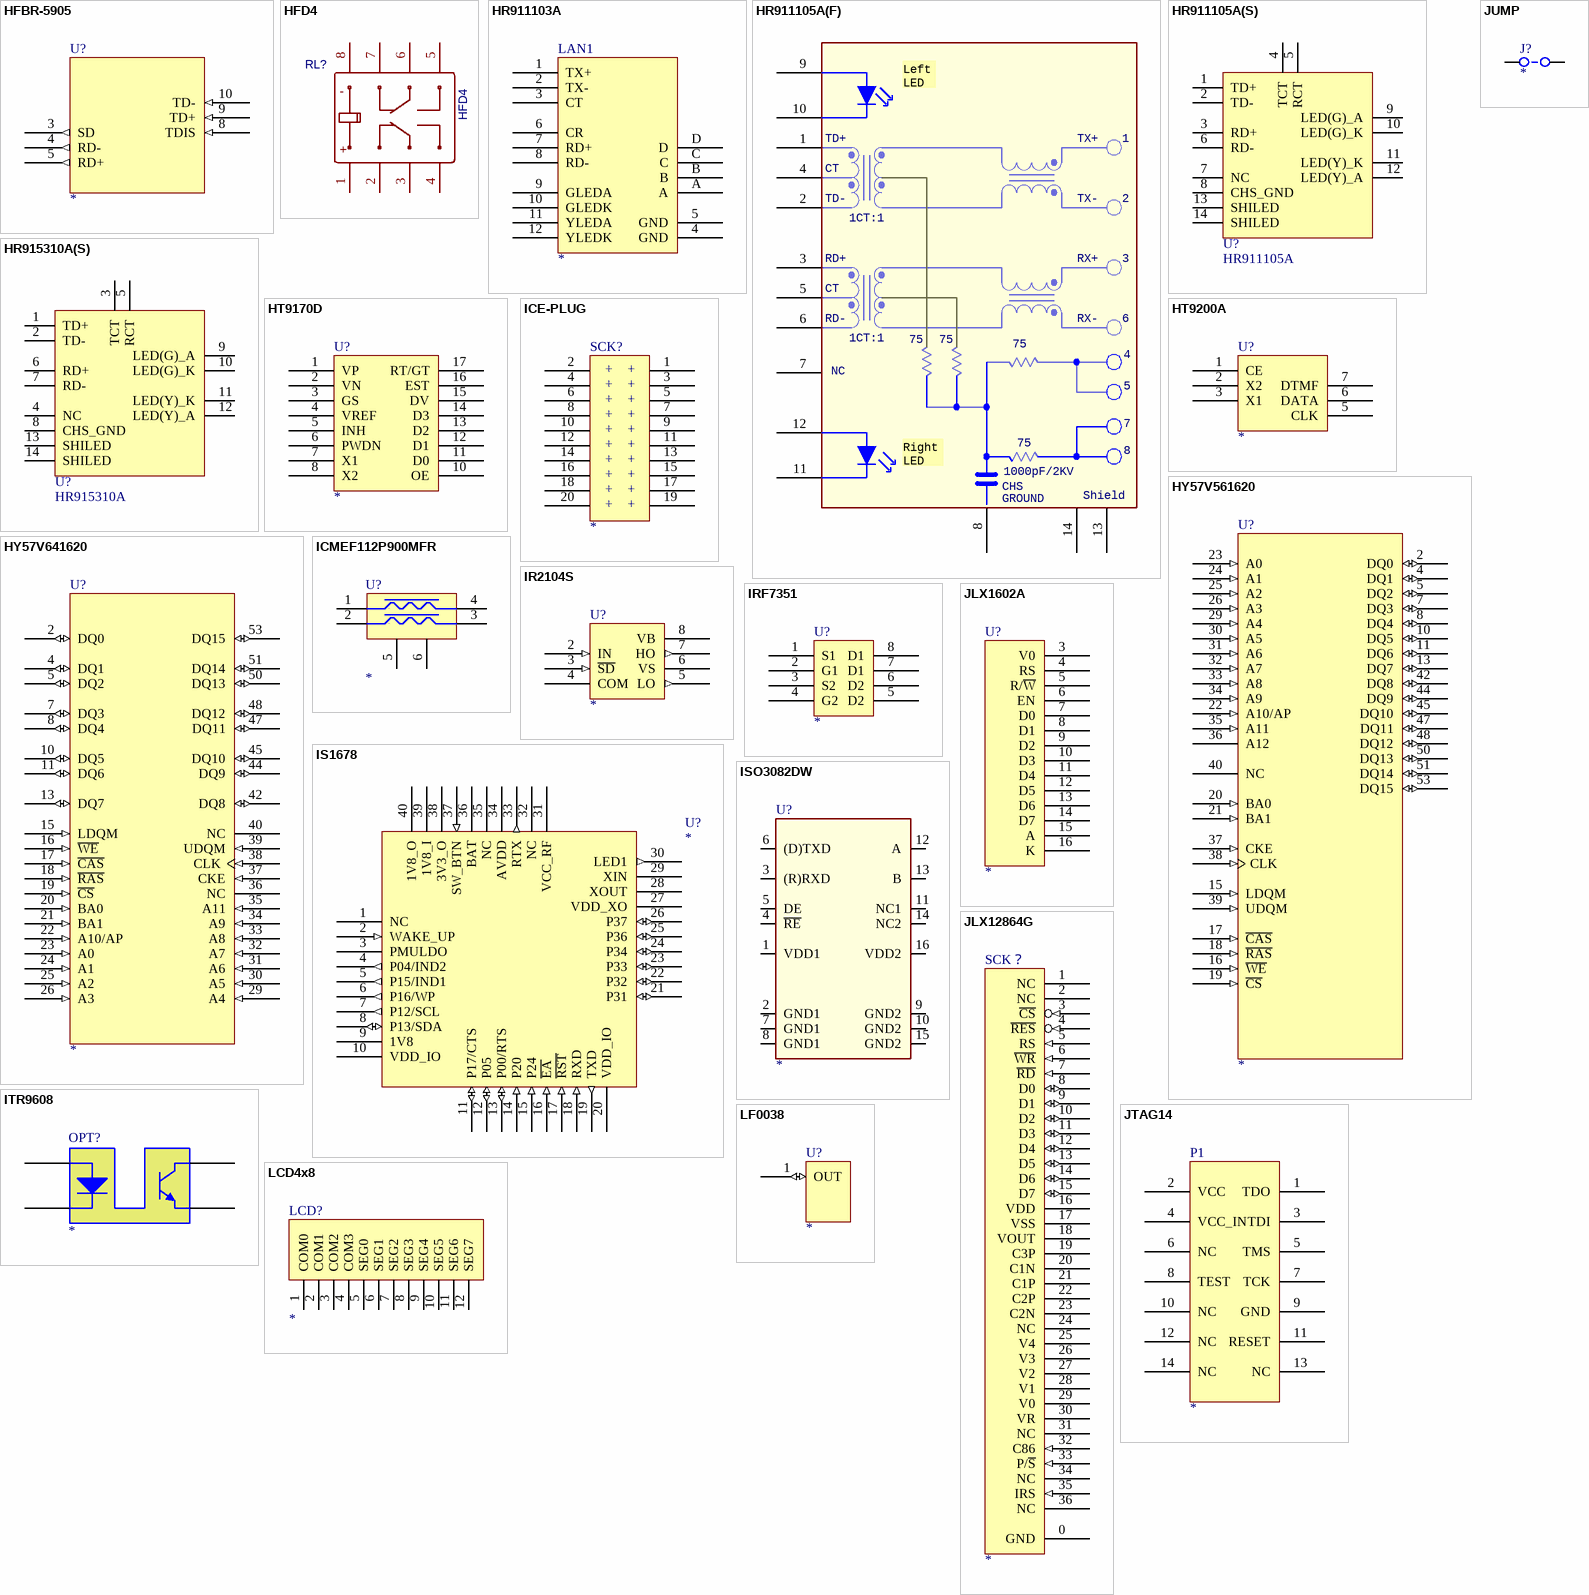
[diagram p3: symbols HFBR-5905 to LF0038]

## HFBR-5905
designator U?
footprint HFBR-9
pins: 1 VEERX (power) hidden to VEERX, 2 VCCRX (power) hidden to VCCRX, 3 SD (out), 4 RD- (out), 5 RD+ (out), 6 VCCTX (power) hidden to VCCTX, 7 VEETX (power) hidden to VEETX, 8 TDIS (in), 9 TD+ (in), 10 TD- (in)
2 alternate drawings of the same symbol

## HFD4
designator RL?
DIS: HFD4/5-S; SN: CL0010257
footprint HFD4
footprint HFD4D
pins: 1, 2, 3, 4, 5, 6, 7, 8
text: -; +

## HR911103A
designator LAN1
footprint HR911103A
pins: 1 TX+, 2 TX-, 3 CT, 4 GND, 5 GND, 6 CR, 7 RD+, 8 RD-, 9 GLEDA, 10 GLEDK, 11 YLEDA, 12 YLEDK, A, B, C, D
2 alternate drawings of the same symbol

## HR911105A(F)
designator U?
footprint RJ45_14
pins: 1 P1, 2 P2, 3 P3, 4 P4, 5 P5, 6 P6, 7 P7, 8 P8, 9 LLED+, 10 LLED-, 11 RLED-, 12 RLED+, 13 S1, 14 S2
text: Left / LED; TD+; TX+; CT; TD-; TX-; 1CT:1; RD+; RX+; RD-; RX-; 75; NC; Right / LED; 1000pF/2KV; CHS; Shield; GROUND

## HR911105A(S)
designator U?, comment HR911105A
SN: CL001010371
footprint RJ45_14
pins: 1 TD+, 2 TD-, 3 RD+, 4 TCT, 5 RCT, 6 RD-, 7 NC, 8 CHS_GND, 9 LED(G)_A, 10 LED(G)_K, 11 LED(Y)_K, 12 LED(Y)_A, 13 SHILED, 14 SHILED

## HR915310A(S)
designator U?, comment HR915310A
SN: CL001010371
footprint HR915310A
pins: 1 TD+, 2 TD-, 3 TCT, 4 NC, 5 RCT, 6 RD+, 7 RD-, 8 CHS_GND, 9 LED(G)_A, 10 LED(G)_K, 11 LED(Y)_K, 12 LED(Y)_A, 13 SHILED, 14 SHILED

## HT9170D
designator U?
footprint SOP-18W
pins: 1 VP, 2 VN, 3 GS, 4 VREF, 5 INH, 6 PWDN, 7 X1, 8 X2, 9 GND (power) hidden to GND, 10 OE, 11 D0, 12 D1, 13 D2, 14 D3, 15 DV, 16 EST, 17 RT/GT, 18 VCC (power) hidden to VCC
2 alternate drawings of the same symbol

## HT9200A
designator U?
footprint SOP-4
pins: 1 CE, 2 X2, 3 X1, 4 GND hidden to GND, 5 CLK, 6 DATA, 7 DTMF, 8 VCC hidden to VCC
2 alternate drawings of the same symbol

## HY57V561620
designator U?
footprint TSOP54
pins: 1 VDD (power) hidden to VDD, 2 DQ0 (io), 3 VDDQ (power) hidden to VDDQ, 4 DQ1 (io), 5 DQ2 (io), 6 VSSQ (power) hidden to VSSQ, 7 DQ3 (io), 8 DQ4 (io), 9 VDDQ (power) hidden to VDDQ, 10 DQ5 (io), 11 DQ6 (io), 12 VSSQ (power) hidden to VSSQ, 13 DQ7 (io), 14 VDD (power) hidden to VDD, 15 LDQM (in), 16 ~{WE} (in), 17 ~{CAS} (in), 18 ~{RAS} (in), 19 ~{CS} (in), 20 BA0 (in), 21 BA1 (in), 22 A10/AP (in), 23 A0 (in), 24 A1 (in), 25 A2 (in), 26 A3 (in), 27 VDD (power) hidden to VDD, 28 VSS (power) hidden to VSS, 29 A4 (in), 30 A5 (in), 31 A6 (in), 32 A7 (in), 33 A8 (in), 34 A9 (in), 35 A11 (in), 36 A12 (hiz), 37 CKE (in), 38 CLK (in), 39 UDQM (in), 40 NC (hiz), 41 VSS (power) hidden to VSS, 42 DQ8 (io), 43 VDDQ (power) hidden to VDDQ, 44 DQ9 (io), 45 DQ10 (io), 46 VSSQ (power) hidden to VSSQ, 47 DQ11 (io), 48 DQ12 (io), 49 VDDQ (power) hidden to VDDQ, 50 DQ13 (io), 51 DQ14 (io), 52 VSSQ (power) hidden to VSSQ, 53 DQ15 (io), 54 VSS (power) hidden to VSS
2 alternate drawings of the same symbol

## HY57V641620
designator U?
footprint TSOP54
pins: 1 VDD (power) hidden to VDD, 2 DQ0 (io), 3 VDDQ (power) hidden to VDDQ, 4 DQ1 (io), 5 DQ2 (io), 6 VSSQ (power) hidden to VSSQ, 7 DQ3 (io), 8 DQ4 (io), 9 VDDQ (power) hidden to VDDQ, 10 DQ5 (io), 11 DQ6 (io), 12 VSSQ (power) hidden to VSSQ, 13 DQ7 (io), 14 VDD (power) hidden to VDD, 15 LDQM (in), 16 ~{WE} (in), 17 ~{CAS} (in), 18 ~{RAS} (in), 19 ~{CS} (in), 20 BA0 (in), 21 BA1 (in), 22 A10/AP (in), 23 A0 (in), 24 A1 (in), 25 A2 (in), 26 A3 (in), 27 VDD (power) hidden to VDD, 28 VSS (power) hidden to VSS, 29 A4 (in), 30 A5 (in), 31 A6 (in), 32 A7 (in), 33 A8 (in), 34 A9 (in), 35 A11 (in), 36 NC (hiz), 37 CKE (in), 38 CLK (in), 39 UDQM (in), 40 NC (hiz), 41 VSS (power) hidden to VSS, 42 DQ8 (io), 43 VDDQ (power) hidden to VDDQ, 44 DQ9 (io), 45 DQ10 (io), 46 VSSQ (power) hidden to VSSQ, 47 DQ11 (io), 48 DQ12 (io), 49 VDDQ (power) hidden to VDDQ, 50 DQ13 (io), 51 DQ14 (io), 52 VSSQ (power) hidden to VSSQ, 53 DQ15 (io), 54 VSS (power) hidden to VSS
2 alternate drawings of the same symbol

## ICE-PLUG
designator SCK?
footprint SOP20-1
pins: 1, 2, 3, 4, 5, 6, 7, 8, 9, 10, 11, 12, 13, 14, 15, 16, 17, 18, 19, 20
2 alternate drawings of the same symbol
text: +

## ICMEF112P900MFR
designator U?
footprint ICMEF112P900MFR
pins: 1, 2, 3, 4, 5, 6
2 alternate drawings of the same symbol

## IR2104S
designator U?
footprint SOP-8
footprint DIP-8
pins: 1 VCC (power) hidden to VCC, 2 IN (in), 3 ~{SD} (in), 4 COM, 5 LO (out), 6 VS (power), 7 HO (out), 8 VB (power)
2 alternate drawings of the same symbol

## IRF7351
designator U?
footprint SOP-8
footprint DIP-8
pins: 1 S1, 2 G1, 3 S2, 4 G2, 5 D2, 6 D2, 7 D1, 8 D1
2 alternate drawings of the same symbol

## IS1678
designator U?
footprint QFN-40
pins: 1 NC (hiz), 2 WAKE_UP (in), 3 PMULDO (power), 4 P04/IND2 (out), 5 P15/IND1 (out), 6 P16/WP (out), 7 P12/SCL (out), 8 P13/SDA (io), 9 1V8 (power), 10 VDD_IO (power), 11 P17/CTS (io), 12 P05 (io), 13 P00/RTS (io), 14 P20 (in), 15 P24 (in), 16 ~{EA} (in), 17 ~{RST} (in), 18 RXD (in), 19 TXD (out), 20 VDD_IO (power), 21 P31 (io), 22 P32 (io), 23 P33 (io), 24 P34 (io), 25 P36 (io), 26 P37 (io), 27 VDD_XO (power), 28 XOUT, 29 XIN, 30 LED1 (out), 31 VCC_RF (power), 32 NC (hiz), 33 RTX (out), 34 AVDD (power), 35 NC (hiz), 36 BAT (power), 37 SW_BTN (in), 38 3V3_O (power), 39 1V8_I (power), 40 1V8_O, 41 GND (power) hidden to GND
2 alternate drawings of the same symbol

## ISO3082DW
designator U?
footprint SOP-16DW
pins: 1 VDD1 (power), 2 GND1 (power), 3 (R)RXD, 4 ~{RE}, 5 DE, 6 (D)TXD, 7 GND1 (power), 8 GND1 (power), 9 GND2 (power), 10 GND2 (power), 11 NC1, 12 A, 13 B, 14 NC2, 15 GND2 (power), 16 VDD2 (power)
2 alternate drawings of the same symbol

## ITR9608
designator OPT?
footprint ITR9608
pins: 1, 2, 3, 4
2 alternate drawings of the same symbol

## JLX1602A
designator U?
footprint SIP-16
pins: 1 GND (power) hidden to GND, 2 VCC (power) hidden to VCC, 3 V0, 4 RS, 5 R/~{W}, 6 EN, 7 D0, 8 D1, 9 D2, 10 D3, 11 D4, 12 D5, 13 D6, 14 D7, 15 A, 16 K
2 alternate drawings of the same symbol

## JLX12864G
designator SCK？
footprint FPC05-36
pins: 0 GND, 1 NC (hiz), 2 NC (hiz), 3 ~{CS} (in), 4 ~{RES} (in), 5 RS (in), 6 ~{WR} (in), 7 ~{RD} (in), 8 D0 (io), 9 D1 (io), 10 D2 (io), 11 D3 (io), 12 D4 (io), 13 D5 (io), 14 D6 (io), 15 D7 (io), 16 VDD (power), 17 VSS (power), 18 VOUT (power), 19 C3P, 20 C1N, 21 C1P, 22 C2P, 23 C2N, 24 NC, 25 V4, 26 V3, 27 V2, 28 V1, 29 V0, 30 VR, 31 NC, 32 C86 (in), 33 P/~{S} (in), 34 NC, 35 IRS (in), 36 NC
2 alternate drawings of the same symbol

## JTAG14
designator P1
footprint IDC-14B
pins: 1 TDO, 2 VCC, 3 TDI, 4 VCC_IN, 5 TMS, 6 NC, 7 TCK, 8 TEST, 9 GND, 10 NC, 11 RESET, 12 NC, 13 NC, 14 NC
2 alternate drawings of the same symbol

## JUMP
designator J?
footprint SIP-2
pins: 1, 2
2 alternate drawings of the same symbol

## LCD4x8
designator LCD?
footprint LCD3012
pins: 1 COM0, 2 COM1, 3 COM2, 4 COM3, 5 SEG0, 6 SEG1, 7 SEG2, 8 SEG3, 9 SEG4, 10 SEG5, 11 SEG6, 12 SEG7
2 alternate drawings of the same symbol

## LF0038
designator U?
footprint IRM1
footprint IRM2
pins: 1 OUT (io), 2 GND (power) hidden to GND, 3 VCC (power) hidden to VCC
2 alternate drawings of the same symbol

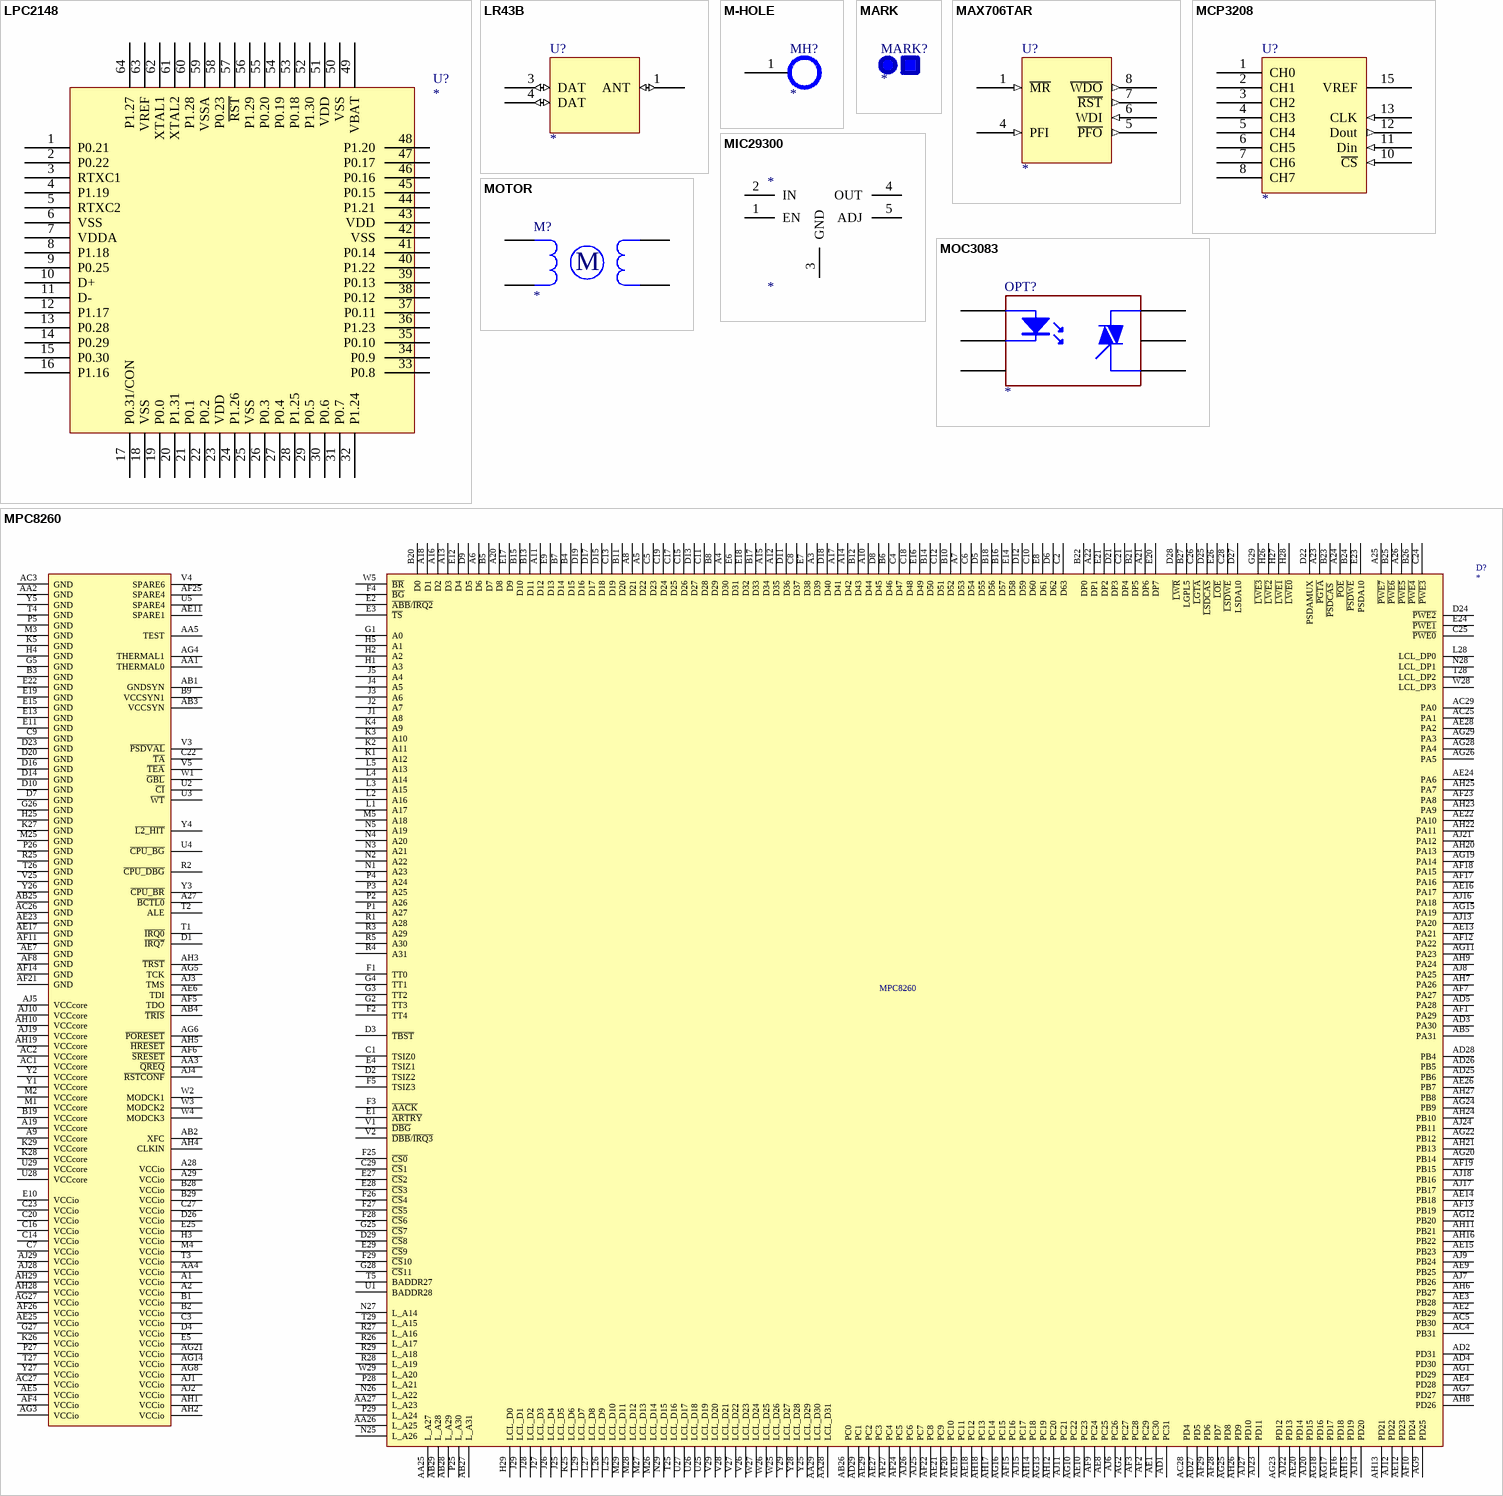
[diagram p4: symbols LPC2148 to MPC8260]

## LPC2148
designator U?
footprint LQFP-64
pins: 1 P0.21, 2 P0.22, 3 RTXC1, 4 P1.19, 5 RTXC2, 6 VSS, 7 VDDA, 8 P1.18, 9 P0.25, 10 D+, 11 D-, 12 P1.17, 13 P0.28, 14 P0.29, 15 P0.30, 16 P1.16, 17 P0.31/CON, 18 VSS, 19 P0.0, 20 P1.31, 21 P0.1, 22 P0.2, 23 VDD, 24 P1.26, 25 VSS, 26 P0.3, 27 P0.4, 28 P1.25, 29 P0.5, 30 P0.6, 31 P0.7, 32 P1.24, 33 P0.8, 34 P0.9, 35 P0.10, 36 P1.23, 37 P0.11, 38 P0.12, 39 P0.13, 40 P1.22, 41 P0.14, 42 VSS, 43 VDD, 44 P1.21, 45 P0.15, 46 P0.16, 47 P0.17, 48 P1.20, 49 VBAT, 50 VSS, 51 VDD, 52 P1.30, 53 P0.18, 54 P0.19, 55 P0.20, 56 P1.29, 57 ~{RST}, 58 P0.23, 59 VSSA, 60 P1.28, 61 XTAL2, 62 XTAL1, 63 VREF, 64 P1.27
2 alternate drawings of the same symbol

## LR43B
designator U?
footprint LR43B
pins: 1 ANT (io), 2 VCC (power) hidden to VCC, 3 DAT (io), 4 DAT (io), 5 GND (power) hidden to GND
2 alternate drawings of the same symbol

## M-HOLE
designator MH?
footprint MH200
footprint MH50
pins: 1
2 alternate drawings of the same symbol

## MARK
designator MARK?
footprint MARK
2 alternate drawings of the same symbol

## MAX706TAR
designator U?
footprint SOP8
pins: 1 ~{MR} (in), 2 VCC (power) hidden to VCC, 3 GND (power) hidden to GND, 4 PFI (in), 5 ~{PFO} (out), 6 WDI (in), 7 ~{RST} (out), 8 ~{WDO} (out)
2 alternate drawings of the same symbol

## MCP3208
designator U?
footprint SOP-16
pins: 1 CH0, 2 CH1, 3 CH2, 4 CH3, 5 CH4, 6 CH5, 7 CH6, 8 CH7, 9 DGND (power) hidden to DGND, 10 ~{CS} (in), 11 Din (in), 12 Dout (out), 13 CLK (in), 14 AGND (power) hidden to AGND, 15 VREF, 16 VCC (power) hidden to VCC
2 alternate drawings of the same symbol

## MIC29300
designator *
pins: 1 EN, 2 IN, 3 GND, 4 OUT, 5 ADJ
2 alternate drawings of the same symbol

## MOC3083
designator OPT?
footprint DIP-6
pins: 1, 2, 3, 4, 5, 6
2 alternate drawings of the same symbol

## MOTOR
designator M?
footprint MOTOR1
pins: A+, A-, B+, B-
2 alternate drawings of the same symbol
text: M

## MPC8260
designator D?
MPC8260
footprint TBGA480
pins: A1 VCCio, A2 VCCio, A3 D39, A4 D30, A5 D22, A6 D6, A7 D53, A8 D21, A9 VCCcore, A10 D44, A11 D12, A12 D35, A13 D3, A14 D42, A15 D34, A16 D2, A17 D41, A18 D1, A19 VCCcore, A20 D8, A21 DP6, A22 DP1, A23 ~{PGTA}, A24 ~{POE}, A25 ~{PWE7}, A26 ~{PWE5}, A27 ~{BCTL0}, A28 VCCio, A29 VCCio, AA1 THERMAL0, AA2 GND, AA3 ~{QREQ}, AA4 VCCio, AA5 TEST, AA25 L_A27, AA26 L_A25, AA27 L_A23, AA28 LCL_D31, AA29 LCL_D30, AB1 GNDSYN, AB2 XFC, AB3 VCCSYN, AB4 ~{TRIS}, AB5 PA31, AB25 GND, AB26 PC0, AB27 L_A31, AB28 L_A29, AB29 L_A28, AC1 VCCcore, AC2 VCCcore, AC3 GND, AC4 PB31, AC5 PB30, AC25 PA1, AC26 GND, AC27 VCCio, AC28 PD4, AC29 PA0, AD1 PC31, AD2 PD31, AD3 PA30, AD4 PD30, AD5 PA28, AD25 PB6, AD26 PB5, AD27 PD5, AD28 PB4, AD29 PC1, AE1 PC30, AE2 PB29, AE3 PB28, AE4 PD28, AE5 VCCio, AE6 TDI, AE7 GND, AE8 PC25, AE9 PB25, AE10 PC23, AE11 SPARE1, AE12 PD23, AE13 PA21, AE14 PB18, AE15 PB23, AE16 PA17, AE17 GND, AE18 PC12, AE19 PC11, AE20 PD14, AE21 PC9, AE22 PA10, AE23 GND, AE24 PA6, AE25 VCCio, AE26 PB7, AE27 PC3, AE28 PA2, AE29 PC2, AF1 PA29, AF2 PC29, AF3 PC28, AF4 VCCio, AF5 TDO, AF6 ~{SRESET}, AF7 PA27, AF8 GND, AF9 PC24, AF10 PD24, AF11 GND, AF12 PA22, AF13 PB19, AF14 GND, AF15 PC16, AF16 PD18, AF17 PA16, AF18 PA15, AF19 PB15, AF20 PC10, AF21 GND, AF22 PC8, AF23 PA8, AF24 PC5, AF25 SPARE4, AF26 VCCio, AF27 PC4, AF28 PD7, AF29 PD6, AG1 PD29, AG2 PC27, AG3 VCCio, AG4 THERMAL1, AG5 TCK, AG6 ~{PORESET}, AG7 PD27, AG8 VCCio, AG9 PD25, AG10 PC22, AG11 PA23, AG12 PB20, AG13 PC19, AG14 VCCio, AG15 PA19, AG16 PC15, AG17 PD17, AG18 PD16, AG19 PA14, AG20 PB14, AG21 VCCio, AG22 PB12, AG23 PD12, AG24 PB9, AG25 PD8, AG26 PA5, AG27 VCCio, AG28 PA4, AG29 PA3, AH1 VCCio, AH2 VCCio, AH3 ~{TRST}, AH4 CLKIN, AH5 ~{HRESET}, AH6 PB27, AH7 PA26, AH8 PD26, AH9 PA24, AH10 VCCcore, AH11 PB21, AH12 PC20, AH13 PD21, AH14 PC18, AH15 PD19, AH16 PB22, AH17 PC14, AH18 PC13, AH19 VCCcore, AH20 PA13, AH21 PB13, AH22 PA11, AH23 PA9, AH24 PB10, AH25 PA7, AH26 PD9, AH27 PB8, AH28 VCCio, AH29 VCCio, AJ1 VCCio, AJ2 VCCio, AJ3 TMS, AJ4 ~{RSTCONF}, AJ5 VCCcore, AJ6 PC26, AJ7 PB26, AJ8 PA25, AJ9 PB24, AJ10 VCCcore, AJ11 PC21, AJ12 PD22, AJ13 PA20, AJ14 PD20, AJ15 PC17, AJ16 PA18, AJ17 PB17, AJ18 PB16, AJ19 VCCcore, AJ20 PD15, AJ21 PA12, AJ22 PD13, AJ23 PD11, AJ24 PB11, AJ25 PC7, AJ26 PC6, AJ27 PD10, AJ28 VCCio, AJ29 VCCio, B1 VCCio, B2 VCCio, B3 GND, B4 D15, B5 D7, B6 D46, B7 D14, B8 D29, B9 VCCSYN1, B10 D52, B11 D20, B12 D43, B13 D11, B14 D50, B15 D10, B16 D57, B17 D33, B18 D56, B19 VCCcore, B20 D0, B21 DP5, B22 DP0, B23 ~{PSDCAS} , B24 ~{PSDWE}, B25 ~{PWE6}, B26 ~{PWE4}, B27 LGPL5, B28 VCCio, B29 VCCio, C1 TSIZ0, C2 D63, C3 VCCio, C4 D47, C5 D23, C6 D54, C7 VCCio, C8 D37, C9 GND, C10 D60, C11 D28, C12 D51, C13 D19, C14 VCCio, C15 D26, C16 VCCio, C17 D25, C18 D48, C19 D24, C20 VCCio, C21 DP4, C22 ~{TA}, C23 VCCio, C24 ~{PWE3}, C25 ~{PWE0}, C26 ~{LGTA}, C27 VCCio, C28 ~{LSDWE}, C29 ~{CS}1, D1 ~{IRQ7}, D2 TSIZ2, D3 ~{TBST}, D4 VCCio, D5 D55, D6 D62, D7 GND, D8 D45, D9 D5, D10 GND, D11 D36, D12 D59, D13 D27, D14 GND, D15 D18, D16 GND, D17, D18 D40, D19 D16, D20 GND, D21 DP3, D22 PSDAMUX, D23 GND, D24 ~{PWE2}, D25 ~{LSDCAS}, D26 VCCio, D27 LSDA10, D28 ~{LWR}, D29 ~{CS}8, E1 ~{ARTRY}, E2 ~{ABB}/~{IRQ2}, E3 ~{TS}, E4 TSIZ1, E5 VCCio, E6 D31, E7 D38, E8 D61, E9 D13, E10 VCCio, E11 GND, E12 D4, E13 GND, E14 D58, E15 GND, E16 D49, E17 D9, E18 D32, E19 GND, E20 DP7, E21 DP2, E22 GND, E23 PSDA10, E24 ~{PWE1}, E25 VCCio, E26 ~{LOE}, E27 ~{CS}2, E28 ~{CS}3, E29 ~{CS}9, F1 TT0, F2 TT4, F3 ~{AACK}, F4 ~{BG}, F5 TSIZ3, F25 ~{CS0}, F26 ~{CS}4, F27 ~{CS}5, F28 ~{CS}6, F29 ~{CS}10, G1 A0, G2 TT3, G3 TT2, G4 TT1, G5 GND, G25 ~{CS}7, G26 GND, G27 VCCio, G28 ~{CS}11, G29 ~{LWE3}, H1 A3, H2 A2, H3 VCCio, H4 GND, H5 A1, H25 GND, H26 ~{LWE2}, H27 ~{LWE1}, H28 ~{LWE0}, H29 LCL_D0, J1 A8, J2 A7, J3 A6, J4 A5, J5 A4, J25 LCL_D5, J26 LCL_D4, J27 LCL_D3, J28 LCL_D2, J29 LCL_D1, K1 A12, K2 A11, K3 A10, K4 A9, K5 GND, K25 LCL_D6, K26 VCCio, K27 GND, K28 VCCcore, K29 VCCcore, L1 A17, L2 A16, L3 A15, L4 A14, L5 A13, L25 LCL_D10, L26 LCL_D9, L27 LCL_D8, L28 LCL_DP0, L29 LCL_D7, M1 VCCcore, M2 VCCcore, M3 GND, M4 VCCio, M5 A18, M25 GND, M26 LCL_D14, M27 LCL_D13, M28 LCL_D12, M29 LCL_D11, N1 A23, N2 A22, N3 A21, N4 A20, N5 A19, N25 L_A26, N26 L_A22, N27 L_A14, N28 LCL_DP1, N29 LCL_D15, P1 A27, P2 A26, P3 A25, P4 A24, P5 GND, P25 L_A30, P26 GND, P27 VCCio, P28 L_A21, P29 L_A24, R1 A28, R2 ~{CPU_DBG}, R3 A29, R4 A31, R5 A30, R25 GND, R26 L_A17, R27 L_A16, R28 L_A19, R29 L_A18, T1 ~{IRQ0}, T2 ALE, T3 VCCio, T4 GND, T5 BADDR27, T25 LCL_D16, T26 GND, T27 VCCio, T28 LCL_DP2, T29 L_A15, U1 BADDR28, U2 ~{CI}, U3 ~{WT}, U4 ~{CPU_BG}, U5 SPARE4, U25 LCL_D19, U26 LCL_D18, U27 LCL_D17, U28 VCCcore, U29 VCCcore, V1 ~{DBG}, V2 ~{DBB}/~{IRQ3}, V3 ~{PSDVAL}, V4 SPARE6, V5 ~{TEA}, V25 GND, V26 LCL_D23, V27 LCL_D22, V28 LCL_D21, V29 LCL_D20, W1 ~{GBL}, W2 MODCK1, W3 MODCK2, W4 MODCK3, W5 ~{BR}, W25 LCL_D26, W26 LCL_D25, W27 LCL_D24, W28 LCL_DP3, W29 L_A20, Y1 VCCcore, Y2 VCCcore, Y3 ~{CPU_BR}, Y4 ~{L2_HIT}, Y5 GND, Y25 LCL_D29, Y26 GND, Y27 VCCio, Y28 LCL_D28, Y29 LCL_D27
2 alternate drawings of the same symbol

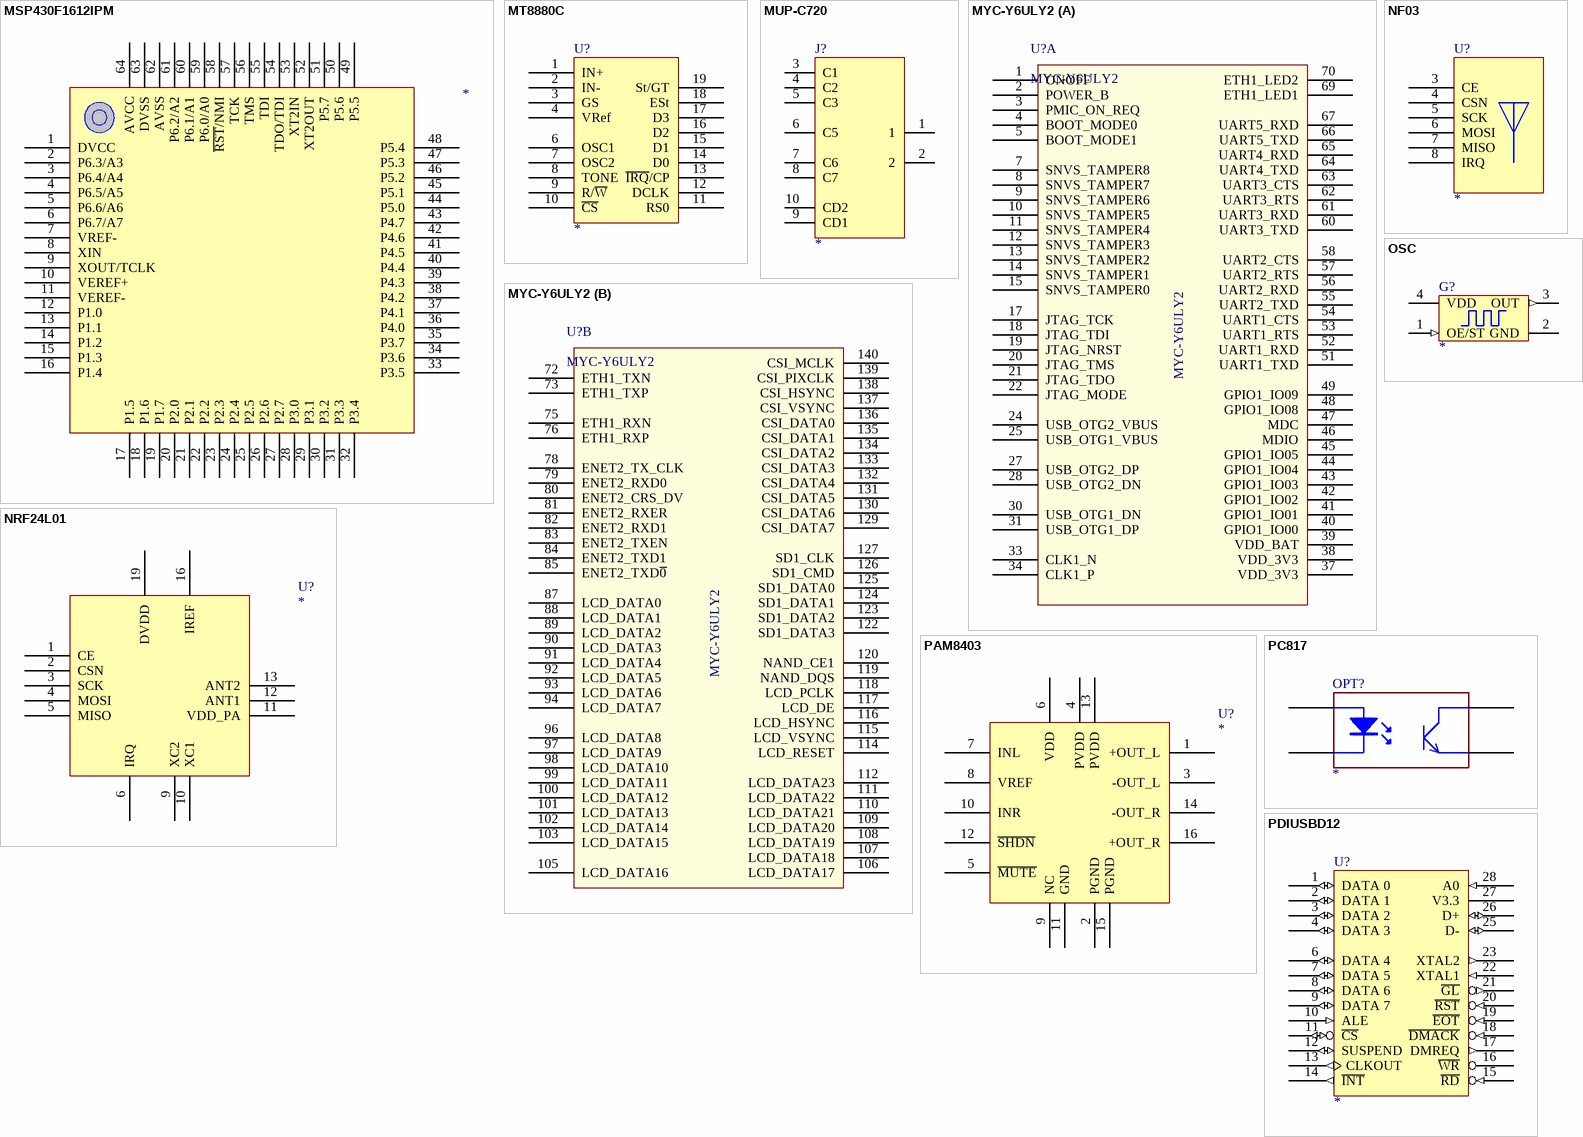
[diagram p5: symbols MSP430F1612IPM to PDIUSBD12]

## MSP430F1612IPM
designator ?
pins: 1 DVCC, 2 P6.3/A3, 3 P6.4/A4, 4 P6.5/A5, 5 P6.6/A6, 6 P6.7/A7, 7 VREF-, 8 XIN, 9 XOUT/TCLK, 10 VEREF+, 11 VEREF-, 12 P1.0, 13 P1.1, 14 P1.2, 15 P1.3, 16 P1.4, 17 P1.5, 18 P1.6, 19 P1.7, 20 P2.0, 21 P2.1, 22 P2.2, 23 P2.3, 24 P2.4, 25 P2.5, 26 P2.6, 27 P2.7, 28 P3.0, 29 P3.1, 30 P3.2, 31 P3.3, 32 P3.4, 33 P3.5, 34 P3.6, 35 P3.7, 36 P4.0, 37 P4.1, 38 P4.2, 39 P4.3, 40 P4.4, 41 P4.5, 42 P4.6, 43 P4.7, 44 P5.0, 45 P5.1, 46 P5.2, 47 P5.3, 48 P5.4, 49 P5.5, 50 P5.6, 51 P5.7, 52 XT2OUT, 53 XT2IN, 54 TDO/TDI, 55 TDI, 56 TMS, 57 TCK, 58 ~{RST}/NMI, 59 P6.0/A0, 60 P6.1/A1, 61 P6.2/A2, 62 AVSS, 63 DVSS, 64 AVCC
2 alternate drawings of the same symbol

## MT8880C
designator U?
footprint SOP-20A
pins: 1 IN+, 2 IN-, 3 GS, 4 VRef, 5 GND (power) hidden to GND, 6 OSC1, 7 OSC2, 8 TONE, 9 R/~{W}, 10 ~{CS}, 11 RS0, 12 DCLK, 13 ~{IRQ}/CP, 14 D0, 15 D1, 16 D2, 17 D3, 18 ESt, 19 St/GT, 20 VCC (power) hidden to VCC
2 alternate drawings of the same symbol

## MUP-C720
designator J?
PCB DECAL: *; Part Description: *; Value: *
footprint MUP-C720
pins: 1, 2, 3 C1, 4 C2, 5 C3, 6 C5, 7 C6, 8 C7, 9 CD1, 10 CD2
2 alternate drawings of the same symbol

## MYC-Y6ULY2
designator U?
footprint LCC140-37X39
part A pins: 1 ONOFF, 2 POWER_B, 3 PMIC_ON_REQ, 4 BOOT_MODE0, 5 BOOT_MODE1, 6 GND (power) hidden to GND, 7 SNVS_TAMPER8, 8 SNVS_TAMPER7, 9 SNVS_TAMPER6, 10 SNVS_TAMPER5, 11 SNVS_TAMPER4, 12 SNVS_TAMPER3, 13 SNVS_TAMPER2, 14 SNVS_TAMPER1, 15 SNVS_TAMPER0, 16 GND (power) hidden to GND, 17 JTAG_TCK, 18 JTAG_TDI, 19 JTAG_NRST, 20 JTAG_TMS, 21 JTAG_TDO, 22 JTAG_MODE, 23 GND (power) hidden to GND, 24 USB_OTG2_VBUS, 25 USB_OTG1_VBUS, 26 GND (power) hidden to GND, 27 USB_OTG2_DP, 28 USB_OTG2_DN, 29 GND (power) hidden to GND, 30 USB_OTG1_DN, 31 USB_OTG1_DP, 32 GND (power) hidden to GND, 33 CLK1_N, 34 CLK1_P, 35 GND (power) hidden to GND, 36 GND (power) hidden to GND, 37 VDD_3V3, 38 VDD_3V3, 39 VDD_BAT, 40 GPIO1_IO00, 41 GPIO1_IO01, 42 GPIO1_IO02, 43 GPIO1_IO03, 44 GPIO1_IO04, 45 GPIO1_IO05, 46 MDIO, 47 MDC, 48 GPIO1_IO08, 49 GPIO1_IO09, 50 GND (power) hidden to GND, 51 UART1_TXD, 52 UART1_RXD, 53 UART1_RTS, 54 UART1_CTS, 55 UART2_TXD, 56 UART2_RXD, 57 UART2_RTS, 58 UART2_CTS, 59 GND (power) hidden to GND, 60 UART3_TXD, 61 UART3_RXD, 62 UART3_RTS, 63 UART3_CTS, 64 UART4_TXD, 65 UART4_RXD, 66 UART5_TXD, 67 UART5_RXD, 68 GND (power) hidden to GND, 69 ETH1_LED1, 70 ETH1_LED2
part B pins: 71 GND (power) hidden to GND, 72 ETH1_TXN, 73 ETH1_TXP, 74 GND (power) hidden to GND, 75 ETH1_RXN, 76 ETH1_RXP, 77 GND (power) hidden to GND, 78 ENET2_TX_CLK, 79 ENET2_RXD0, 80 ENET2_CRS_DV, 81 ENET2_RXER, 82 ENET2_RXD1, 83 ENET2_TXEN, 84 ENET2_TXD1, 85 ENET2_TXD~{0}, 86 GND (power) hidden to GND, 87 LCD_DATA0, 88 LCD_DATA1, 89 LCD_DATA2, 90 LCD_DATA3, 91 LCD_DATA4, 92 LCD_DATA5, 93 LCD_DATA6, 94 LCD_DATA7, 95 GND (power) hidden to GND, 96 LCD_DATA8, 97 LCD_DATA9, 98 LCD_DATA10, 99 LCD_DATA11, 100 LCD_DATA12, 101 LCD_DATA13, 102 LCD_DATA14, 103 LCD_DATA15, 104 GND (power) hidden to GND, 105 LCD_DATA16, 106 LCD_DATA17, 107 LCD_DATA18, 108 LCD_DATA19, 109 LCD_DATA20, 110 LCD_DATA21, 111 LCD_DATA22, 112 LCD_DATA23, 113 GND (power) hidden to GND, 114 LCD_RESET, 115 LCD_VSYNC, 116 LCD_HSYNC, 117 LCD_DE, 118 LCD_PCLK, 119 NAND_DQS, 120 NAND_CE1, 121 GND (power) hidden to GND, 122 SD1_DATA3, 123 SD1_DATA2, 124 SD1_DATA1, 125 SD1_DATA0, 126 SD1_CMD, 127 SD1_CLK, 128 GND (power) hidden to GND, 129 CSI_DATA7, 130 CSI_DATA6, 131 CSI_DATA5, 132 CSI_DATA4, 133 CSI_DATA3, 134 CSI_DATA2, 135 CSI_DATA1, 136 CSI_DATA0, 137 CSI_VSYNC, 138 CSI_HSYNC, 139 CSI_PIXCLK, 140 CSI_MCLK

## NF03
designator U?
footprint NF03
footprint SSIP-8
pins: 1 VCC (power) hidden to VCC, 2 GND (power) hidden to GND, 3 CE, 4 CSN, 5 SCK, 6 MOSI, 7 MISO, 8 IRQ
2 alternate drawings of the same symbol

## NRF24L01
designator U?
footprint QFN-20
pins: 1 CE, 2 CSN, 3 SCK, 4 MOSI, 5 MISO, 6 IRQ, 7 VCC hidden to VCC, 8 GND hidden to GND, 9 XC2, 10 XC1, 11 VDD_PA, 12 ANT1, 13 ANT2, 14 GND hidden to GND, 15 VCC hidden to VCC, 16 IREF, 17 GND hidden to GND, 18 VCC hidden to VCC, 19 DVDD, 20 VCC hidden to VCC, 21 GND hidden to GND
2 alternate drawings of the same symbol

## OSC
designator G?
footprint EPSN-SG-8002CA
pins: 1 OE/ST (in), 2 GND (power), 3 OUT (out), 4 VDD (power)
2 alternate drawings of the same symbol

## PAM8403
designator U?
footprint SOP-16
pins: 1 +OUT_L, 2 PGND, 3 -OUT_L, 4 PVDD, 5 ~{MUTE}, 6 VDD, 7 INL, 8 VREF, 9 NC, 10 INR, 11 GND, 12 ~{SHDN}, 13 PVDD, 14 -OUT_R, 15 PGND, 16 +OUT_R
2 alternate drawings of the same symbol

## PC817
designator OPT?
footprint DIP4
pins: 1, 2, 3, 4
2 alternate drawings of the same symbol

## PDIUSBD12
designator U?
footprint TSSOP28
pins: 1 DATA 0 (io), 2 DATA 1 (io), 3 DATA 2 (io), 4 DATA 3 (io), 5 GND (power) hidden to GND, 6 DATA 4 (io), 7 DATA 5 (io), 8 DATA 6 (io), 9 DATA 7 (io), 10 ALE (in), 11 ~{CS} (io), 12 SUSPEND (io), 13 CLKOUT (out), 14 ~{INT} (out), 15 ~{RD} (in), 16 ~{WR}, 17 DMREQ (out), 18 ~{DMACK} (in), 19 ~{EOT} (in), 20 ~{RST} (in), 21 ~{GL} (out), 22 XTAL1 (in), 23 XTAL2 (out), 24 VCC (power) hidden to VCC, 25 D- (io), 26 D+ (io), 27 V3.3 (power), 28 A0 (in)
2 alternate drawings of the same symbol

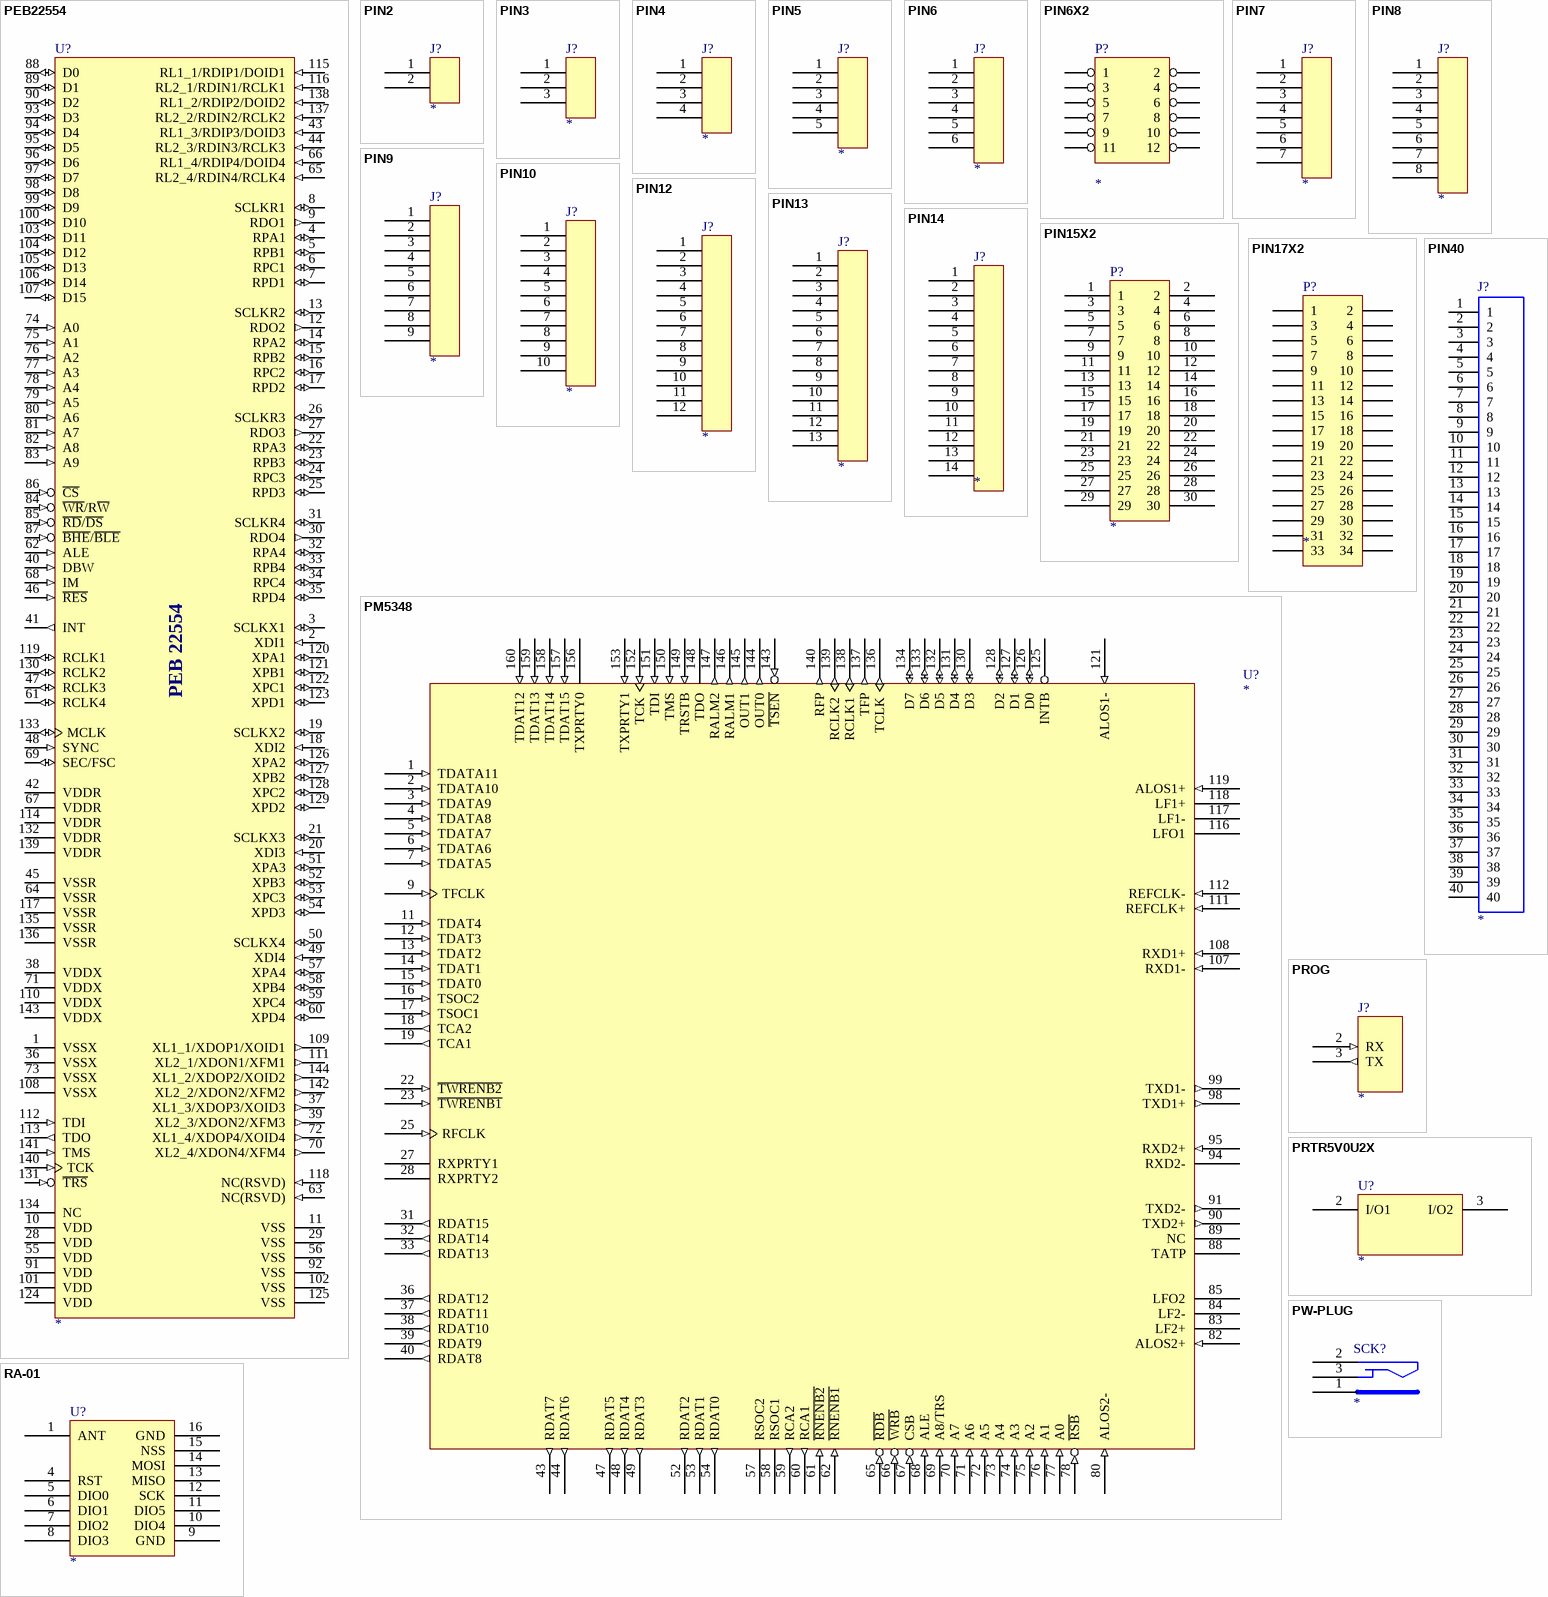
[diagram p6: symbols PEB22554 to RA-01]

## PEB22554
designator U?
Text Field1: PEB22554-HTV1.3; Text Field2: E1/T1/J1接口芯片; Text Field4: PEB 22554(Q67003H9339); Text Field3: PEB22554-HTV1.3
footprint F-QFP20X20-G144/N
pins: 1 VSSX (power), 2 XDI1 (in), 3 SCLKX1 (io), 4 RPA1 (io), 5 RPB1 (io), 6 RPC1 (io), 7 RPD1 (io), 8 SCLKR1 (io), 9 RDO1 (out), 10 VDD (power), 11 VSS (power), 12 RDO2 (out), 13 SCLKR2 (io), 14 RPA2 (io), 15 RPB2 (io), 16 RPC2 (io), 17 RPD2 (io), 18 XDI2 (in), 19 SCLKX2 (io), 20 XDI3 (in), 21 SCLKX3 (io), 22 RPA3 (io), 23 RPB3 (io), 24 RPC3 (io), 25 RPD3 (io), 26 SCLKR3 (io), 27 RDO3 (out), 28 VDD (power), 29 VSS (power), 30 RDO4 (out), 31 SCLKR4 (io), 32 RPA4 (io), 33 RPB4 (io), 34 RPC4 (io), 35 RPD4 (io), 36 VSSX (power), 37 XL1_3/XDOP3/XOID3 (out), 38 VDDX (power), 39 XL2_3/XDON2/XFM3 (out), 40 DBW (in), 41 INT (out), 42 VDDR (power), 43 RL1_3/RDIP3/DOID3 (in), 44 RL2_3/RDIN3/RCLK3 (in), 45 VSSR (power), 46 ~{RES} (in), 47 RCLK3 (io), 48 SYNC (in), 49 XDI4 (in), 50 SCLKX4 (io), 51 XPA3 (io), 52 XPB3 (io), 53 XPC3 (io), 54 XPD3 (io), 55 VDD (power), 56 VSS (power), 57 XPA4 (io), 58 XPB4 (io), 59 XPC4 (io), 60 XPD4 (io), 61 RCLK4 (io), 62 ALE (in), 63 NC(RSVD) (in), 64 VSSR (power), 65 RL2_4/RDIN4/RCLK4 (in), 66 RL1_4/RDIP4/DOID4 (in), 67 VDDR (power), 68 IM (in), 69 SEC/FSC (io), 70 XL2_4/XDON4/XFM4 (out), 71 VDDX (power), 72 XL1_4/XDOP4/XOID4 (out), 73 VSSX (power), 74 A0 (in), 75 A1 (in), 76 A2 (in), 77 A3 (in), 78 A4 (in), 79 A5 (in), 80 A6 (in), 81 A7 (in), 82 A8 (in), 83 A9 (in), 84 ~{WR}/R~{W} (in), 85 ~{RD}/~{DS} (in), 86 ~{CS} (in), 87 ~{BHE}/~{BLE} (in), 88 D0 (io), 89 D1 (io), 90 D2 (io), 91 VDD (power), 92 VSS (power), 93 D3 (io), 94 D4 (io), 95 D5 (io), 96 D6 (io), 97 D7 (io), 98 D8 (io), 99 D9 (io), 100 D10 (io), 101 VDD (power), 102 VSS (power), 103 D11 (io), 104 D12 (io), 105 D13 (io), 106 D14 (io), 107 D15 (io), 108 VSSX (power), 109 XL1_1/XDOP1/XOID1 (out), 110 VDDX (power), 111 XL2_1/XDON1/XFM1 (out), 112 TDI (in), 113 TDO (out), 114 VDDR (power), 115 RL1_1/RDIP1/DOID1 (in), 116 RL2_1/RDIN1/RCLK1 (in), 117 VSSR (power), 118 NC(RSVD) (in), 119 RCLK1 (io), 120 XPA1 (io), 121 XPB1 (io), 122 XPC1 (io), 123 XPD1 (io), 124 VDD (power), 125 VSS (power), 126 XPA2 (io), 127 XPB2 (io), 128 XPC2 (io), 129 XPD2 (io), 130 RCLK2 (io), 131 ~{TRS}  (in), 132 VDDR (power), 133 MCLK (io), 134 NC, 135 VSSR (power), 136 VSSR (power), 137 RL2_2/RDIN2/RCLK2 (in), 138 RL1_2/RDIP2/DOID2 (in), 139 VDDR (power), 140 TCK (in), 141 TMS (in), 142 XL2_2/XDON2/XFM2 (out), 143 VDDX (power), 144 XL1_2/XDOP2/XOID2 (out)
2 alternate drawings of the same symbol
text: PEB 22554

## PIN2
designator J?
footprint SIP-2
footprint CON-.1/2
pins: 1, 2
2 alternate drawings of the same symbol

## PIN3
designator J?
footprint SIP-3
footprint SIP6B-SMD
footprint CON-.1/3
pins: 1, 2, 3
2 alternate drawings of the same symbol

## PIN4
designator J?
footprint SIP-4
footprint SIP4B-SMD
footprint SIPs-4
footprint CON-.1/4
pins: 1, 2, 3, 4
2 alternate drawings of the same symbol

## PIN5
designator J?
footprint SIP-5
footprint SIP5B-SMD
footprint CON-.1/5
pins: 1, 2, 3, 4, 5
2 alternate drawings of the same symbol

## PIN6
designator J?
footprint SIP-6
footprint SIP6B-SMD
footprint CON-.1/6
pins: 1, 2, 3, 4, 5, 6
2 alternate drawings of the same symbol

## PIN6X2
designator P?
footprint IDC-12
footprint IDS-12
footprint IDC-12A
footprint IDS-12A (Footprint not found)
pins: 1, 2, 3, 4, 5, 6, 7, 8, 9, 10, 11, 12

## PIN7
designator J?
footprint SIP-7
footprint CON-.1/7
pins: 1, 2, 3, 4, 5, 6, 7
2 alternate drawings of the same symbol

## PIN8
designator J?
footprint SIP-8
footprint CON-.1/8
pins: 1, 2, 3, 4, 5, 6, 7, 8
2 alternate drawings of the same symbol

## PIN9
designator J?
footprint SIP-9
pins: 1, 2, 3, 4, 5, 6, 7, 8, 9
2 alternate drawings of the same symbol

## PIN10
designator J?
footprint SIP-10
pins: 1, 2, 3, 4, 5, 6, 7, 8, 9, 10
2 alternate drawings of the same symbol

## PIN12
designator J?
footprint SIP-10
pins: 1, 2, 3, 4, 5, 6, 7, 8, 9, 10, 11, 12
2 alternate drawings of the same symbol

## PIN13
designator J?
footprint SIP-10
pins: 1, 2, 3, 4, 5, 6, 7, 8, 9, 10, 11, 12, 13
2 alternate drawings of the same symbol

## PIN14
designator J?
footprint FPC10-14V (FPC1.0mm 立贴)
pins: 1, 2, 3, 4, 5, 6, 7, 8, 9, 10, 11, 12, 13, 14
2 alternate drawings of the same symbol

## PIN15X2
designator P?
footprint IDC-30
footprint IDS-30
footprint IDC-30A
footprint IDS-30A
pins: 1, 2, 3, 4, 5, 6, 7, 8, 9, 10, 11, 12, 13, 14, 15, 16, 17, 18, 19, 20, 21, 22, 23, 24, 25, 26, 27, 28, 29, 30

## PIN17X2
designator P?
footprint IDC-34
footprint IDS-34 (Footprint not found)
footprint IDC-34A (Footprint not found)
footprint IDS-34A (Footprint not found)
footprint IDC-34B
pins: 1, 2, 3, 4, 5, 6, 7, 8, 9, 10, 11, 12, 13, 14, 15, 16, 17, 18, 19, 20, 21, 22, 23, 24, 25, 26, 27, 28, 29, 30, 31, 32, 33, 34

## PIN40
designator J?
footprint FPC05-40D
pins: 1, 2, 3, 4, 5, 6, 7, 8, 9, 10, 11, 12, 13, 14, 15, 16, 17, 18, 19, 20, 21, 22, 23, 24, 25, 26, 27, 28, 29, 30, 31, 32, 33, 34, 35, 36, 37, 38, 39, 40
2 alternate drawings of the same symbol

## PM5348
designator U?
footprint QFP28X28-G160/G28N
pins: 1 TDATA11 (in), 2 TDATA10 (in), 3 TDATA9 (in), 4 TDATA8 (in), 5 TDATA7 (in), 6 TDATA6 (in), 7 TDATA5 (in), 8 VDDDC1 (power) hidden to VDDDC1, 9 TFCLK (in), 10 VSSDC1 (power) hidden to VSSDC1, 11 TDAT4 (in), 12 TDAT3 (in), 13 TDAT2 (in), 14 TDAT1 (in), 15 TDAT0 (in), 16 TSOC2 (in), 17 TSOC1 (in), 18 TCA2 (out), 19 TCA1 (out), 20 VDDDC2 (power) hidden to VDDDC2, 21 VSSDC2 (power) hidden to VSSDC2, 22 ~{TWRENB2} (in), 23 ~{TWRENB1} (in), 24 VDDAC1 (power) hidden to VDDAC1, 25 RFCLK (in), 26 VSSAC1 (power) hidden to VSSAC1, 27 RXPRTY1, 28 RXPRTY2, 29 VDDDC3 (power) hidden to VDDDC3, 30 VSSDC3 (power) hidden to VSSDC3, 31 RDAT15 (out), 32 RDAT14 (out), 33 RDAT13 (out), 34 VDDAC2 (power) hidden to VDDAC2, 35 VSSAC2 (power) hidden to VSSAC2, 36 RDAT12 (out), 37 RDAT11 (out), 38 RDAT10 (out), 39 RDAT9 (out), 40 RDAT8 (out), 41 VSSDC4 (power) hidden to VSSDC4, 42 VDDDC4 (power) hidden to VDDDC4, 43 RDAT7 (out), 44 RDAT6 (out), 45 VDDAC3 (power) hidden to VDDAC3, 46 VSSAC3 (power) hidden to VSSAC3, 47 RDAT5 (out), 48 RDAT4 (out), 49 RDAT3 (out), 50 VSSDC5 (power) hidden to VSSDC5, 51 VDDDC5 (power) hidden to VDDDC5, 52 RDAT2 (out), 53 RDAT1 (out), 54 RDAT0 (out), 55 VDDAC4 (power) hidden to VDDAC4, 56 VSSAC4 (power) hidden to VSSAC4, 57 RSOC2, 58 RSOC1, 59 RCA2 (out), 60 RCA1 (out), 61 ~{RNENB2} (in), 62 ~{RNENB1} (in), 63 VDDDC6 (power) hidden to VDDDC6, 64 VSSDC6 (power) hidden to VSSDC6, 65 ~{RDB} (in), 66 ~{WRB} (in), 67 CSB (in), 68 ALE (in), 69 A8/TRS (in), 70 A7 (in), 71 A6 (in), 72 A5 (in), 73 A4 (in), 74 A3 (in), 75 A2 (in), 76 A1 (in), 77 A0 (in), 78 ~{RSB} (in), 79 R2AVS2 (power) hidden to R2AVS2, 80 ALOS2- (in), 81 R2AVD2 (power) hidden to R2AVD2, 82 ALOS2+ (in), 83 LF2+, 84 LF2-, 85 LFO2, 86 R2AVS1 (power) hidden to R2AVS1, 87 R2AVD1 (power) hidden to R2AVD1, 88 TATP, 89 NC (hiz), 90 TXD2+ (out), 91 TXD2- (out), 92 TXVDAC (power) hidden to TXVDAC, 93 R2AVDQ3 (power) hidden to R2AVDQ3, 94 RXD2-, 95 RXD2+ (in), 96 R2AVSQ3 (power) hidden to R2AVSQ3, 97 TXVSAC (power) hidden to TXVSAC, 98 TXD1+ (out), 99 TXD1- (out), 100 VDDDC7 (power) hidden to VDDDC7, 101 VSSDC7 (power) hidden to VSSDC7, 102 TAVS1 (power) hidden to TAVS1, 103 TAVD1 (power) hidden to TAVD1, 104 TAVD2 (power) hidden to TAVD2, 105 TAVS2 (power) hidden to TAVS2, 106 R1AVDQ3 (power) hidden to R1AVDQ3, 107 RXD1- (in), 108 RXD1+ (in), 109 R1AVSQ3 (power) hidden to R1AVSQ3, 110 REFAVD (power) hidden to REFAVD, 111 REFCLK+ (in), 112 REFCLK- (in), 113 REFAVS (power) hidden to REFAVS, 114 R1AVD1 (power) hidden to R1AVD1, 115 R1AVS1 (power) hidden to R1AVS1, 116 LFO1, 117 LF1-, 118 LF1+, 119 ALOS1+ (in), 120 R1AVD2 (power) hidden to R1AVD2, 121 ALOS1- (in), 122 R1AVS2 (power) hidden to R1AVS2, 123 VSSDC8 (power) hidden to VSSDC8, 124 VDDDC8 (power) hidden to VDDDC8, 125 INTB (oc), 126 D0 (io), 127 D1 (io), 128 D2 (io), 129 VSSAC5 (power) hidden to VSSAC5, 130 D3 (io), 131 D4 (io), 132 D5 (io), 133 D6 (io), 134 D7 (io), 135 VDDAC5 (power) hidden to VDDAC5, 136 TCLK (out), 137 TFP (out), 138 RCLK1 (out), 139 RCLK2 (out), 140 RFP (out), 141 VSSDC9 (power) hidden to VSSDC9, 142 VDDDC9 (power) hidden to VDDDC9, 143 ~{TSEN} (in), 144 OUT0 (out), 145 OUT1 (out), 146 RALM1 (out), 147 RALM2 (out), 148 TDO, 149 TRSTB (in), 150 TMS (in), 151 TDI (in), 152 TCK (in), 153 TXPRTY1 (in), 154 VDDDC10 (power) hidden to VDDDC10, 155 VSSDC10 (power) hidden to VSSDC10, 156 TXPRTY0, 157 TDAT15 (in), 158 TDAT14 (in), 159 TDAT13 (in), 160 TDAT12 (in)
2 alternate drawings of the same symbol

## PROG
designator J?
footprint SIP-4-SMT
pins: 1 GND (power) hidden to GND, 2 RX (in), 3 TX (out), 4 VCC (power) hidden to VCC
2 alternate drawings of the same symbol

## PRTR5V0U2X
designator U?
footprint SOT-143B
pins: 1 GND (power) hidden to GND, 2 I/O1, 3 I/O2, 4 VCC (power) hidden to VCC
2 alternate drawings of the same symbol

## PW-PLUG
designator SCK?
footprint PW3
footprint DC-003L
footprint DC-003W
pins: 1, 2, 3
2 alternate drawings of the same symbol

## RA-01
designator U?
footprint RA-01
pins: 1 ANT, 2 GND (power) hidden to GND, 3 VCC (power) hidden to VCC, 4 RST, 5 DIO0, 6 DIO1, 7 DIO2, 8 DIO3, 9 GND, 10 DIO4, 11 DIO5, 12 SCK, 13 MISO, 14 MOSI, 15 NSS, 16 GND
2 alternate drawings of the same symbol

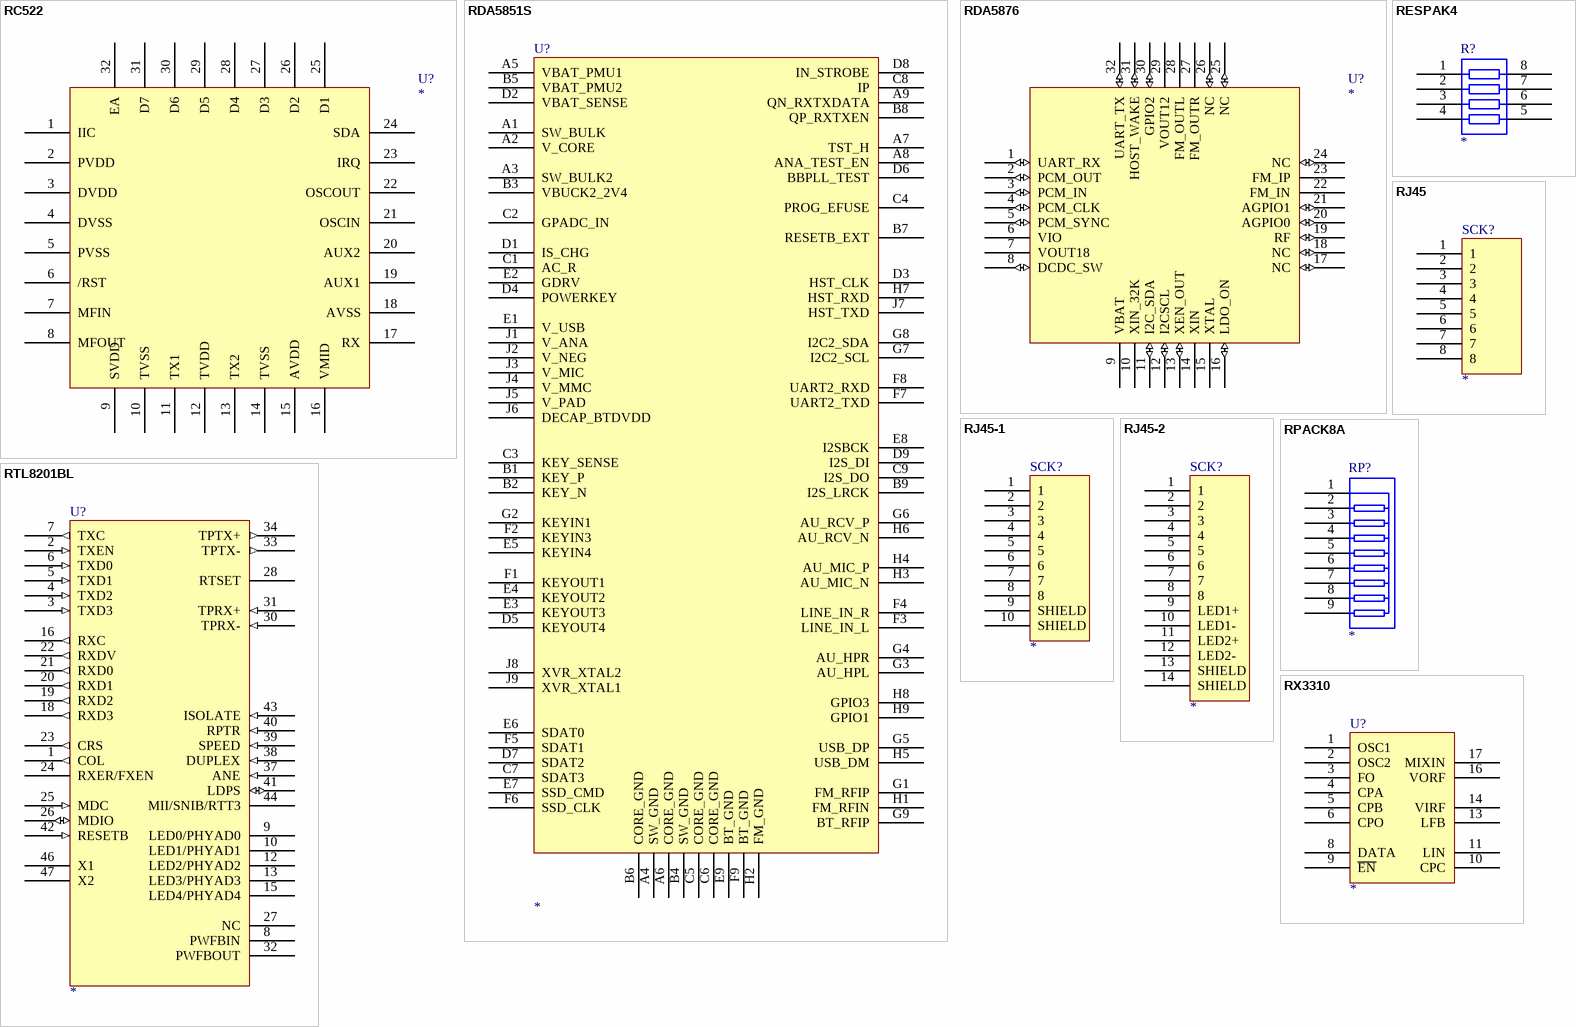
[diagram p7: symbols RC522 to RX3310]

## RC522
designator U?
footprint QFN-32
pins: 1 IIC, 2 PVDD, 3 DVDD, 4 DVSS, 5 PVSS, 6 /RST, 7 MFIN, 8 MFOUT, 9 SVDD, 10 TVSS, 11 TX1, 12 TVDD, 13 TX2, 14 TVSS, 15 AVDD, 16 VMID, 17 RX, 18 AVSS, 19 AUX1, 20 AUX2, 21 OSCIN, 22 OSCOUT, 23 IRQ, 24 SDA, 25 D1, 26 D2, 27 D3, 28 D4, 29 D5, 30 D6, 31 D7, 31 GND (power) hidden to GND, 32 EA, 33 GND (power) hidden to GND
2 alternate drawings of the same symbol